# Altium integrated library TI Digital Signal Processor 32-Bit.IntLib: 121 symbols (part 11 of 13)
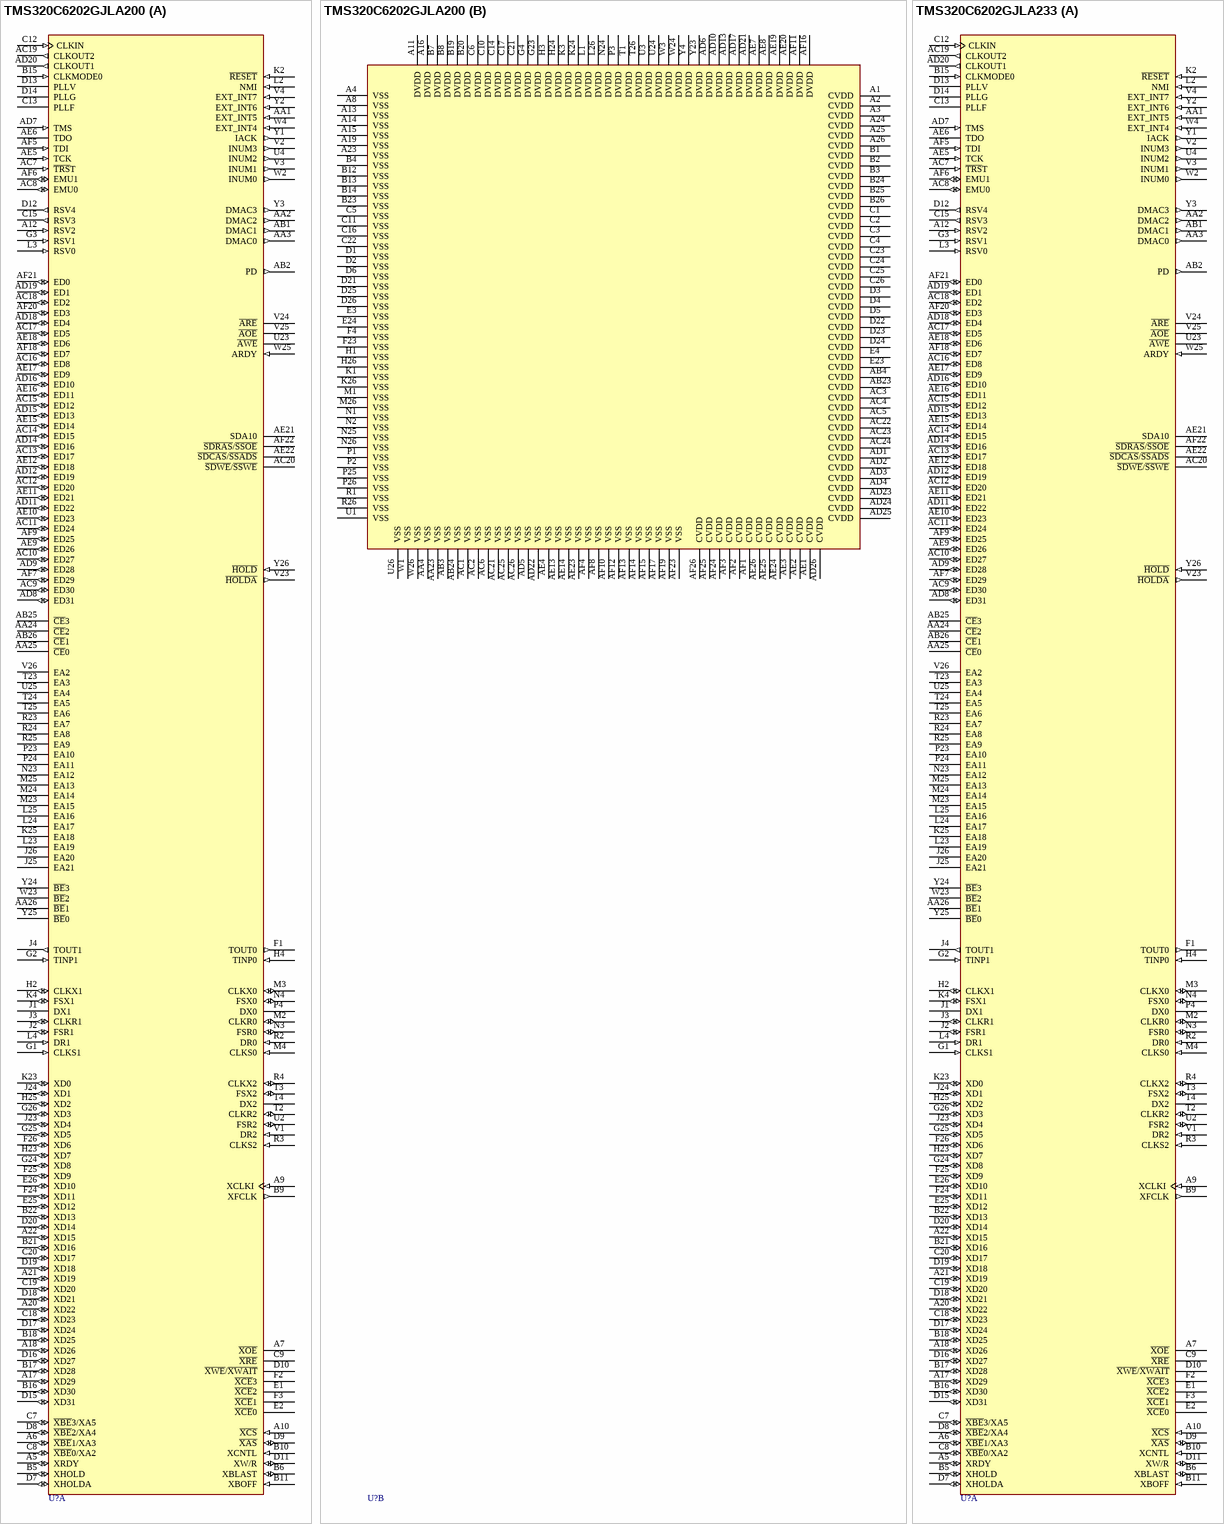
[diagram p140: symbols TMS320C6202GJLA200 to TMS320C6202GJLA233]

## TMS320C6202GJLA200
designator U?
Fixed-Point, 1.8/3.3V, 2000 MIPS, Multichannel/Multifunction DSP; Note: PLLV, PLLG and PLLF are not part of external voltage supply or ground.; Published: 25-Jan-2001; LatestRevisionDate: 13-Apr-2006; LatestRevisionNote: IPC-7351 Footprint Added.; DatasheetVersion: Mar-2000; PackageVersion: Feb-2000; PackageReference: GJL352; Publisher: Altium Limited; PackageDescription: 352-Ball Ball Grid Array 1 mm Pitch; ComponentLink1Description: Manufacturer Link; ComponentLink1URL: http://www.ti.com/; ComponentLink2Description: Datasheet; ComponentLink2URL: http://www-s.ti.com/sc/ds/tms320c6202.pdf
footprint GJL352 (BGA, 352-Leads, Body 27x27mm, Pitch 1mm)
3D model TMS320C6202-GJL352 (352-Ball Ball Grid Array 1 mm Pitch)
part A pins: A5 XRDY (io), A6 ~{XBE}1/XA3 (io), A7 ~{XOE} (hiz), A9 XCLKI (in), A10 ~{XCS} (in), A12 RSV2 (in), A17 XD29 (io), A18 XD26 (io), A20 XD22 (io), A21 XD19 (io), A22 XD15 (io), AA1 EXT_INT5 (in), AA2 DMAC2 (out), AA3 DMAC0 (out), AA24 ~{CE}2 (hiz), AA25 ~{CE}0 (hiz), AA26 ~{BE}1 (hiz), AB1 DMAC1 (out), AB2 PD (out), AB25 ~{CE}3 (hiz), AB26 ~{CE}1 (hiz), AC7 ~{TRS}T (in), AC8 EMU0 (io), AC9 ED30 (io), AC10 ED27 (io), AC11 ED24 (io), AC12 ED20 (io), AC13 ED17 (io), AC14 ED15 (io), AC15 ED12 (io), AC16 ED8 (io), AC17 ED5 (io), AC18 ED2 (io), AC19 CLKOUT2 (out), AC20 ~{SDWE}/~{SSWE} (hiz), AD7 TMS (in), AD8 ED31 (io), AD9 ED28 (io), AD11 ED22 (io), AD12 ED19 (io), AD14 ED16 (io), AD15 ED13 (io), AD16 ED10 (io), AD18 ED4 (io), AD19 ED1 (io), AD20 CLKOUT1 (out), AE5 TCK (in), AE6 TDO (hiz), AE9 ED26 (io), AE10 ED23 (io), AE11 ED21 (io), AE12 ED18 (io), AE15 ED14 (io), AE16 ED11 (io), AE17 ED9 (io), AE18 ED6 (io), AE21 SDA10 (hiz), AE22 ~{SDCAS}/~{SSADS} (hiz), AF5 TDI (in), AF6 EMU1 (io), AF7 ED29 (io), AF9 ED25 (io), AF18 ED7 (io), AF20 ED3 (io), AF21 ED0 (io), AF22 ~{SDRAS}/~{SSOE} (hiz), B5 XHOLD (io), B6 XBLAST (io), B9 XFCLK (out), B10 XCNTL (in), B11 XBOFF (in), B15 CLKMODE0 (in), B16 XD30 (io), B17 XD28 (io), B18 XD25 (io), B21 XD16 (io), B22 XD13 (io), C7 ~{XBE}3/XA5 (io), C8 ~{XBE}0/XA2 (io), C9 ~{XRE} (hiz), C12 CLKIN (in), C13 PLLF, C15 RSV3 (out), C18 XD23 (io), C19 XD20 (io), C20 XD17 (io), D7 XHOLDA (io), D8 ~{XBE}2/XA4 (io), D9 ~{XAS} (io), D10 ~{XWE}/~{XWAIT} (hiz), D11 XW/R (io), D12 RSV4 (out), D13 PLLV (power), D14 PLLG (power), D15 XD31 (io), D16 XD27 (io), D17 XD24 (io), D18 XD21 (io), D19 XD18 (io), D20 XD14 (io), E1 ~{XCE}2 (hiz), E2 ~{XCE}0 (hiz), E25 XD12 (io), E26 XD10 (io), F1 TOUT0 (out), F2 ~{XCE}3 (hiz), F3 ~{XCE}1 (hiz), F24 XD11 (io), F25 XD9 (io), F26 XD6 (io), G1 CLKS1 (in), G2 TINP1 (in), G3 RSV1 (in), G24 XD8 (io), G25 XD5 (io), G26 XD3 (io), H2 CLKX1 (io), H4 TINP0 (in), H23 XD7 (io), H25 XD2 (io), J1 DX1 (hiz), J2 FSR1 (io), J3 CLKR1 (io), J4 TOUT1 (out), J23 XD4 (io), J24 XD1 (io), J25 EA21 (hiz), J26 EA20 (hiz), K2 ~{RESET} (in), K4 FSX1 (io), K23 XD0 (io), K25 EA18 (hiz), L2 NMI (in), L3 RSV0 (in), L4 DR1 (in), L23 EA19 (hiz), L24 EA17 (hiz), L25 EA16 (hiz), M2 CLKR0 (io), M3 CLKX0 (io), M4 CLKS0 (in), M23 EA15 (hiz), M24 EA14 (hiz), M25 EA13 (hiz), N3 FSR0 (io), N4 FSX0 (io), N23 EA12 (hiz), P4 DX0 (hiz), P23 EA10 (hiz), P24 EA11 (hiz), R2 DR0 (in), R3 CLKS2 (in), R4 CLKX2 (io), R23 EA7 (hiz), R24 EA8 (hiz), R25 EA9 (hiz), T2 CLKR2 (io), T3 FSX2 (io), T4 DX2 (hiz), T23 EA3 (hiz), T24 EA5 (hiz), T25 EA6 (hiz), U2 FSR2 (io), U4 INUM2 (out), U23 ~{AWE} (hiz), U25 EA4 (hiz), V1 DR2 (in), V2 INUM3 (out), V3 INUM1 (out), V4 EXT_INT7 (in), V23 ~{HOLDA} (out), V24 ~{ARE} (hiz), V25 ~{AOE} (hiz), V26 EA2 (hiz), W2 INUM0 (out), W4 EXT_INT4 (in), W23 ~{BE}2 (hiz), W25 ARDY (in), Y1 IACK (out), Y2 EXT_INT6 (in), Y3 DMAC3 (out), Y24 ~{BE}3 (hiz), Y25 ~{BE}0 (hiz), Y26 ~{HOLD} (in)
part B pins: A1 CVDD (power), A2 CVDD (power), A3 CVDD (power), A4 VSS (power), A8 VSS (power), A11 DVDD (power), A13 VSS (power), A14 VSS (power), A15 VSS (power), A16 DVDD (power), A19 VSS (power), A23 VSS (power), A24 CVDD (power), A25 CVDD (power), A26 CVDD (power), AA4 VSS (power), AA23 VSS (power), AB3 VSS (power), AB4 CVDD (power), AB23 CVDD (power), AB24 VSS (power), AC1 VSS (power), AC2 VSS (power), AC3 CVDD (power), AC4 CVDD (power), AC5 CVDD (power), AC6 VSS (power), AC21 VSS (power), AC22 CVDD (power), AC23 CVDD (power), AC24 CVDD (power), AC25 VSS (power), AC26 VSS (power), AD1 CVDD (power), AD2 CVDD (power), AD3 CVDD (power), AD4 CVDD (power), AD5 VSS (power), AD6 DVDD (power), AD10 DVDD (power), AD13 DVDD (power), AD17 DVDD (power), AD21 DVDD (power), AD22 VSS (power), AD23 CVDD (power), AD24 CVDD (power), AD25 CVDD (power), AD26 CVDD (power), AE1 CVDD (power), AE2 CVDD (power), AE3 CVDD (power), AE4 VSS (power), AE7 DVDD (power), AE8 DVDD (power), AE13 VSS (power), AE14 VSS (power), AE19 DVDD (power), AE20 DVDD (power), AE23 VSS (power), AE24 CVDD (power), AE25 CVDD (power), AE26 CVDD (power), AF1 CVDD (power), AF2 CVDD (power), AF3 CVDD (power), AF4 VSS (power), AF8 VSS (power), AF10 VSS (power), AF11 DVDD (power), AF12 VSS (power), AF13 VSS (power), AF14 VSS (power), AF15 VSS (power), AF16 DVDD (power), AF17 VSS (power), AF19 VSS (power), AF23 VSS (power), AF24 CVDD (power), AF25 CVDD (power), AF26 CVDD (power), B1 CVDD (power), B2 CVDD (power), B3 CVDD (power), B4 VSS (power), B7 DVDD (power), B8 DVDD (power), B12 VSS (power), B13 VSS (power), B14 VSS (power), B19 DVDD (power), B20 DVDD (power), B23 VSS (power), B24 CVDD (power), B25 CVDD (power), B26 CVDD (power), C1 CVDD (power), C2 CVDD (power), C3 CVDD (power), C4 CVDD (power), C5 VSS (power), C6 DVDD (power), C10 DVDD (power), C11 VSS (power), C14 DVDD (power), C16 VSS (power), C17 DVDD (power), C21 DVDD (power), C22 VSS (power), C23 CVDD (power), C24 CVDD (power), C25 CVDD (power), C26 CVDD (power), D1 VSS (power), D2 VSS (power), D3 CVDD (power), D4 CVDD (power), D5 CVDD (power), D6 VSS (power), D21 VSS (power), D22 CVDD (power), D23 CVDD (power), D24 CVDD (power), D25 VSS (power), D26 VSS (power), E3 VSS (power), E4 CVDD (power), E23 CVDD (power), E24 VSS (power), F4 VSS (power), F23 VSS (power), G4 DVDD (power), G23 DVDD (power), H1 VSS (power), H3 DVDD (power), H24 DVDD (power), H26 VSS (power), K1 VSS (power), K3 DVDD (power), K24 DVDD (power), K26 VSS (power), L1 DVDD (power), L26 DVDD (power), M1 VSS (power), M26 VSS (power), N1 VSS (power), N2 VSS (power), N24 DVDD (power), N25 VSS (power), N26 VSS (power), P1 VSS (power), P2 VSS (power), P3 DVDD (power), P25 VSS (power), P26 VSS (power), R1 VSS (power), R26 VSS (power), T1 DVDD (power), T26 DVDD (power), U1 VSS (power), U3 DVDD (power), U24 DVDD (power), U26 VSS (power), W1 VSS (power), W3 DVDD (power), W24 DVDD (power), W26 VSS (power), Y4 DVDD (power), Y23 DVDD (power)

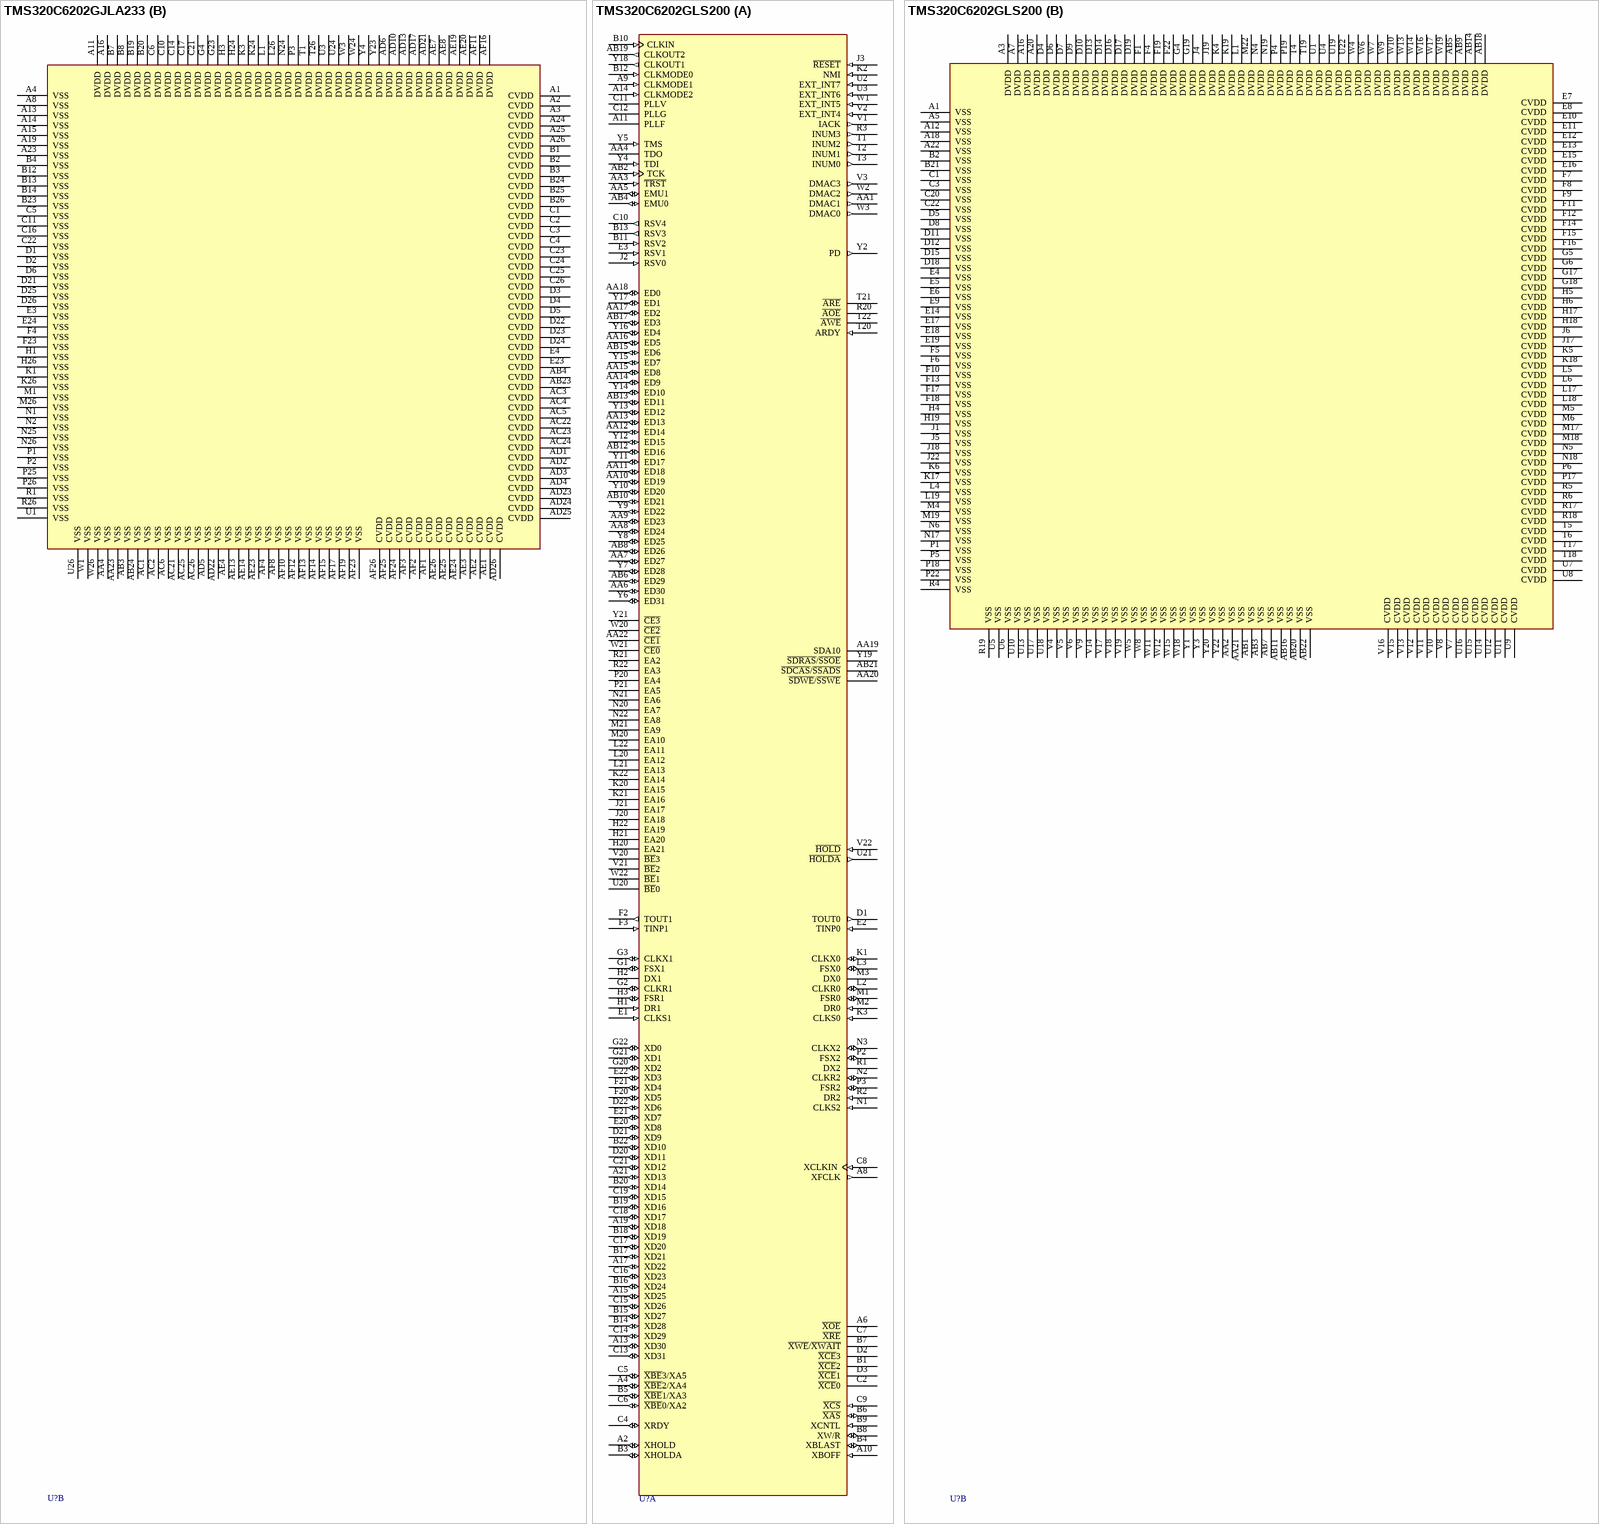
[diagram p116: symbols TMS320C6202GJLA233 to TMS320C6202GLS200]

## TMS320C6202GJLA233
designator U?
Fixed-Point, 1.8/3.3V, 2000 MIPS, Multichannel/Multifunction DSP; Note: PLLV, PLLG and PLLF are not part of external voltage supply or ground.; Published: 25-Jan-2001; LatestRevisionDate: 13-Apr-2006; LatestRevisionNote: IPC-7351 Footprint Added.; DatasheetVersion: Mar-2000; PackageVersion: Feb-2000; PackageReference: GJL352; Publisher: Altium Limited; PackageDescription: 352-Ball Ball Grid Array 1 mm Pitch; ComponentLink1Description: Manufacturer Link; ComponentLink1URL: http://www.ti.com/; ComponentLink2Description: Datasheet; ComponentLink2URL: http://www-s.ti.com/sc/ds/tms320c6202.pdf
footprint GJL352 (BGA, 352-Leads, Body 27x27mm, Pitch 1mm)
3D model TMS320C6202-GJL352 (352-Ball Ball Grid Array 1 mm Pitch)
part A pins: A5 XRDY (io), A6 ~{XBE}1/XA3 (io), A7 ~{XOE} (hiz), A9 XCLKI (in), A10 ~{XCS} (in), A12 RSV2 (in), A17 XD29 (io), A18 XD26 (io), A20 XD22 (io), A21 XD19 (io), A22 XD15 (io), AA1 EXT_INT5 (in), AA2 DMAC2 (out), AA3 DMAC0 (out), AA24 ~{CE}2 (hiz), AA25 ~{CE}0 (hiz), AA26 ~{BE}1 (hiz), AB1 DMAC1 (out), AB2 PD (out), AB25 ~{CE}3 (hiz), AB26 ~{CE}1 (hiz), AC7 ~{TRS}T (in), AC8 EMU0 (io), AC9 ED30 (io), AC10 ED27 (io), AC11 ED24 (io), AC12 ED20 (io), AC13 ED17 (io), AC14 ED15 (io), AC15 ED12 (io), AC16 ED8 (io), AC17 ED5 (io), AC18 ED2 (io), AC19 CLKOUT2 (out), AC20 ~{SDWE}/~{SSWE} (hiz), AD7 TMS (in), AD8 ED31 (io), AD9 ED28 (io), AD11 ED22 (io), AD12 ED19 (io), AD14 ED16 (io), AD15 ED13 (io), AD16 ED10 (io), AD18 ED4 (io), AD19 ED1 (io), AD20 CLKOUT1 (out), AE5 TCK (in), AE6 TDO (hiz), AE9 ED26 (io), AE10 ED23 (io), AE11 ED21 (io), AE12 ED18 (io), AE15 ED14 (io), AE16 ED11 (io), AE17 ED9 (io), AE18 ED6 (io), AE21 SDA10 (hiz), AE22 ~{SDCAS}/~{SSADS} (hiz), AF5 TDI (in), AF6 EMU1 (io), AF7 ED29 (io), AF9 ED25 (io), AF18 ED7 (io), AF20 ED3 (io), AF21 ED0 (io), AF22 ~{SDRAS}/~{SSOE} (hiz), B5 XHOLD (io), B6 XBLAST (io), B9 XFCLK (out), B10 XCNTL (in), B11 XBOFF (in), B15 CLKMODE0 (in), B16 XD30 (io), B17 XD28 (io), B18 XD25 (io), B21 XD16 (io), B22 XD13 (io), C7 ~{XBE}3/XA5 (io), C8 ~{XBE}0/XA2 (io), C9 ~{XRE} (hiz), C12 CLKIN (in), C13 PLLF, C15 RSV3 (out), C18 XD23 (io), C19 XD20 (io), C20 XD17 (io), D7 XHOLDA (io), D8 ~{XBE}2/XA4 (io), D9 ~{XAS} (io), D10 ~{XWE}/~{XWAIT} (hiz), D11 XW/R (io), D12 RSV4 (out), D13 PLLV (power), D14 PLLG (power), D15 XD31 (io), D16 XD27 (io), D17 XD24 (io), D18 XD21 (io), D19 XD18 (io), D20 XD14 (io), E1 ~{XCE}2 (hiz), E2 ~{XCE}0 (hiz), E25 XD12 (io), E26 XD10 (io), F1 TOUT0 (out), F2 ~{XCE}3 (hiz), F3 ~{XCE}1 (hiz), F24 XD11 (io), F25 XD9 (io), F26 XD6 (io), G1 CLKS1 (in), G2 TINP1 (in), G3 RSV1 (in), G24 XD8 (io), G25 XD5 (io), G26 XD3 (io), H2 CLKX1 (io), H4 TINP0 (in), H23 XD7 (io), H25 XD2 (io), J1 DX1 (hiz), J2 FSR1 (io), J3 CLKR1 (io), J4 TOUT1 (out), J23 XD4 (io), J24 XD1 (io), J25 EA21 (hiz), J26 EA20 (hiz), K2 ~{RESET} (in), K4 FSX1 (io), K23 XD0 (io), K25 EA18 (hiz), L2 NMI (in), L3 RSV0 (in), L4 DR1 (in), L23 EA19 (hiz), L24 EA17 (hiz), L25 EA16 (hiz), M2 CLKR0 (io), M3 CLKX0 (io), M4 CLKS0 (in), M23 EA15 (hiz), M24 EA14 (hiz), M25 EA13 (hiz), N3 FSR0 (io), N4 FSX0 (io), N23 EA12 (hiz), P4 DX0 (hiz), P23 EA10 (hiz), P24 EA11 (hiz), R2 DR0 (in), R3 CLKS2 (in), R4 CLKX2 (io), R23 EA7 (hiz), R24 EA8 (hiz), R25 EA9 (hiz), T2 CLKR2 (io), T3 FSX2 (io), T4 DX2 (hiz), T23 EA3 (hiz), T24 EA5 (hiz), T25 EA6 (hiz), U2 FSR2 (io), U4 INUM2 (out), U23 ~{AWE} (hiz), U25 EA4 (hiz), V1 DR2 (in), V2 INUM3 (out), V3 INUM1 (out), V4 EXT_INT7 (in), V23 ~{HOLDA} (out), V24 ~{ARE} (hiz), V25 ~{AOE} (hiz), V26 EA2 (hiz), W2 INUM0 (out), W4 EXT_INT4 (in), W23 ~{BE}2 (hiz), W25 ARDY (in), Y1 IACK (out), Y2 EXT_INT6 (in), Y3 DMAC3 (out), Y24 ~{BE}3 (hiz), Y25 ~{BE}0 (hiz), Y26 ~{HOLD} (in)
part B pins: A1 CVDD (power), A2 CVDD (power), A3 CVDD (power), A4 VSS (power), A8 VSS (power), A11 DVDD (power), A13 VSS (power), A14 VSS (power), A15 VSS (power), A16 DVDD (power), A19 VSS (power), A23 VSS (power), A24 CVDD (power), A25 CVDD (power), A26 CVDD (power), AA4 VSS (power), AA23 VSS (power), AB3 VSS (power), AB4 CVDD (power), AB23 CVDD (power), AB24 VSS (power), AC1 VSS (power), AC2 VSS (power), AC3 CVDD (power), AC4 CVDD (power), AC5 CVDD (power), AC6 VSS (power), AC21 VSS (power), AC22 CVDD (power), AC23 CVDD (power), AC24 CVDD (power), AC25 VSS (power), AC26 VSS (power), AD1 CVDD (power), AD2 CVDD (power), AD3 CVDD (power), AD4 CVDD (power), AD5 VSS (power), AD6 DVDD (power), AD10 DVDD (power), AD13 DVDD (power), AD17 DVDD (power), AD21 DVDD (power), AD22 VSS (power), AD23 CVDD (power), AD24 CVDD (power), AD25 CVDD (power), AD26 CVDD (power), AE1 CVDD (power), AE2 CVDD (power), AE3 CVDD (power), AE4 VSS (power), AE7 DVDD (power), AE8 DVDD (power), AE13 VSS (power), AE14 VSS (power), AE19 DVDD (power), AE20 DVDD (power), AE23 VSS (power), AE24 CVDD (power), AE25 CVDD (power), AE26 CVDD (power), AF1 CVDD (power), AF2 CVDD (power), AF3 CVDD (power), AF4 VSS (power), AF8 VSS (power), AF10 VSS (power), AF11 DVDD (power), AF12 VSS (power), AF13 VSS (power), AF14 VSS (power), AF15 VSS (power), AF16 DVDD (power), AF17 VSS (power), AF19 VSS (power), AF23 VSS (power), AF24 CVDD (power), AF25 CVDD (power), AF26 CVDD (power), B1 CVDD (power), B2 CVDD (power), B3 CVDD (power), B4 VSS (power), B7 DVDD (power), B8 DVDD (power), B12 VSS (power), B13 VSS (power), B14 VSS (power), B19 DVDD (power), B20 DVDD (power), B23 VSS (power), B24 CVDD (power), B25 CVDD (power), B26 CVDD (power), C1 CVDD (power), C2 CVDD (power), C3 CVDD (power), C4 CVDD (power), C5 VSS (power), C6 DVDD (power), C10 DVDD (power), C11 VSS (power), C14 DVDD (power), C16 VSS (power), C17 DVDD (power), C21 DVDD (power), C22 VSS (power), C23 CVDD (power), C24 CVDD (power), C25 CVDD (power), C26 CVDD (power), D1 VSS (power), D2 VSS (power), D3 CVDD (power), D4 CVDD (power), D5 CVDD (power), D6 VSS (power), D21 VSS (power), D22 CVDD (power), D23 CVDD (power), D24 CVDD (power), D25 VSS (power), D26 VSS (power), E3 VSS (power), E4 CVDD (power), E23 CVDD (power), E24 VSS (power), F4 VSS (power), F23 VSS (power), G4 DVDD (power), G23 DVDD (power), H1 VSS (power), H3 DVDD (power), H24 DVDD (power), H26 VSS (power), K1 VSS (power), K3 DVDD (power), K24 DVDD (power), K26 VSS (power), L1 DVDD (power), L26 DVDD (power), M1 VSS (power), M26 VSS (power), N1 VSS (power), N2 VSS (power), N24 DVDD (power), N25 VSS (power), N26 VSS (power), P1 VSS (power), P2 VSS (power), P3 DVDD (power), P25 VSS (power), P26 VSS (power), R1 VSS (power), R26 VSS (power), T1 DVDD (power), T26 DVDD (power), U1 VSS (power), U3 DVDD (power), U24 DVDD (power), U26 VSS (power), W1 VSS (power), W3 DVDD (power), W24 DVDD (power), W26 VSS (power), Y4 DVDD (power), Y23 DVDD (power)

## TMS320C6202GLS200
designator U?
Fixed-Point, 1.8/3.3V, 2000 MIPS, Multichannel/Multifunction DSP; Note: PLLV, PLLG and PLLF are not part of external voltage supply or ground.; Published: 25-Jan-2001; LatestRevisionDate: 13-Apr-2006; LatestRevisionNote: IPC-7351 Footprint Added.; DatasheetVersion: Mar-2000; PackageVersion: Apr-2000; PackageReference: GLS384; Publisher: Altium Limited; PackageDescription: 384-Ball Ball Grid Array 0.8 mm Pitch; ComponentLink1Description: Manufacturer Link; ComponentLink1URL: http://www.ti.com/; ComponentLink2Description: Datasheet; ComponentLink2URL: http://www-s.ti.com/sc/ds/tms320c6202.pdf
footprint GLS384 (BGA, 384-Leads, Body 18x18mm, Pitch 0.8mm)
3D model TMS320C6202-GLS384 (384-Ball Ball Grid Array 0.8 mm Pitch)
part A pins: A2 XHOLD (io), A4 ~{XBE}2/XA4 (io), A6 ~{XOE} (hiz), A8 XFCLK (out), A9 CLKMODE1 (in), A10 XBOFF (in), A11 PLLF, A13 XD30 (io), A14 CLKMODE2 (in), A15 XD25 (io), A17 XD22 (io), A19 XD18 (io), A21 XD13 (io), AA1 DMAC1 (out), AA3 ~{TRST} (in), AA4 TDO (hiz), AA5 EMU1 (io), AA6 ED30 (io), AA7 ED27 (io), AA8 ED24 (io), AA9 ED23 (io), AA10 ED19 (io), AA11 ED18 (io), AA12 ED14 (io), AA13 ED13 (io), AA14 ED9 (io), AA15 ED8 (io), AA16 ED5 (io), AA17 ED2 (io), AA18 ED0 (io), AA19 SDA10 (hiz), AA20 ~{SDWE}/~{SSWE} (hiz), AA22 ~{CE1} (hiz), AB2 TCK (in), AB4 EMU0 (io), AB6 ED29 (io), AB8 ED26 (io), AB10 ED21 (io), AB12 ED16 (io), AB13 ED11 (io), AB15 ED6 (io), AB17 ED3 (io), AB19 CLKOUT2 (out), AB21 ~{SDCAS}/~{SSADS} (hiz), B1 ~{XCE}2 (hiz), B3 XHOLDA (io), B4 XBLAST (io), B5 ~{XBE}1/XA3 (io), B6 ~{XAS} (io), B7 ~{XWE}/~{XWAIT} (hiz), B8 XW/R (io), B9 XCNTL (in), B10 CLKIN (in), B11 RSV2 (in), B12 CLKMODE0 (in), B13 RSV3 (out), B14 XD28 (io), B15 XD27 (io), B16 XD24 (io), B17 XD21 (io), B18 XD19 (io), B19 XD16 (io), B20 XD14 (io), B22 XD10 (io), C2 ~{XCE}0 (hiz), C4 XRDY (io), C5 ~{XBE}3/XA5 (io), C6 ~{XBE}0/XA2 (io), C7 ~{XRE} (hiz), C8 XCLKIN (in), C9 ~{XCS} (in), C10 RSV4 (out), C11 PLLV (power), C12 PLLG (power), C13 XD31 (io), C14 XD29 (io), C15 XD26 (io), C16 XD23 (io), C17 XD20 (io), C18 XD17 (io), C19 XD15 (io), C21 XD12 (io), D1 TOUT0 (out), D2 ~{XCE}3 (hiz), D3 ~{XCE}1 (hiz), D20 XD11 (io), D21 XD9 (io), D22 XD6 (io), E1 CLKS1 (in), E2 TINP0 (in), E3 RSV1 (in), E20 XD8 (io), E21 XD7 (io), E22 XD3 (io), F2 TOUT1 (out), F3 TINP1 (in), F20 XD5 (io), F21 XD4 (io), G1 FSX1 (io), G2 CLKR1 (io), G3 CLKX1 (io), G20 XD2 (io), G21 XD1 (io), G22 XD0 (io), H1 DR1 (in), H2 DX1 (hiz), H3 FSR1 (io), H20 EA21 (hiz), H21 EA20 (hiz), H22 EA19 (hiz), J2 RSV0 (in), J3 ~{RESET} (in), J20 EA18 (hiz), J21 EA17 (hiz), K1 CLKX0 (io), K2 NMI (in), K3 CLKS0 (in), K20 EA15 (hiz), K21 EA16 (hiz), K22 EA14 (hiz), L2 CLKR0 (io), L3 FSX0 (io), L20 EA12 (hiz), L21 EA13 (hiz), L22 EA11 (hiz), M1 FSR0 (io), M2 DR0 (in), M3 DX0 (hiz), M20 EA10 (hiz), M21 EA9 (hiz), N1 CLKS2 (in), N2 CLKR2 (io), N3 CLKX2 (io), N20 EA7 (hiz), N21 EA6 (hiz), N22 EA8 (hiz), P2 FSX2 (io), P3 FSR2 (io), P20 EA4 (hiz), P21 EA5 (hiz), R1 DX2 (hiz), R2 DR2 (in), R3 INUM3 (out), R20 ~{AOE} (hiz), R21 EA2 (hiz), R22 EA3 (hiz), T1 INUM2 (out), T2 INUM1 (out), T3 INUM0 (out), T20 ARDY (in), T21 ~{ARE} (hiz), T22 ~{AWE} (hiz), U2 EXT_INT7 (in), U3 EXT_INT6 (in), U20 ~{BE}0 (hiz), U21 ~{HOLDA} (out), V1 IACK (out), V2 EXT_INT4 (in), V3 DMAC3 (out), V20 ~{BE}3 (hiz), V21 ~{BE}2 (hiz), V22 ~{HOLD} (in), W1 EXT_INT5 (in), W2 DMAC2 (out), W3 DMAC0 (out), W20 ~{CE2} (hiz), W21 ~{CE0} (hiz), W22 ~{BE}1 (hiz), Y2 PD (out), Y4 TDI (in), Y5 TMS (in), Y6 ED31 (io), Y7 ED28 (io), Y8 ED25 (io), Y9 ED22 (io), Y10 ED20 (io), Y11 ED17 (io), Y12 ED15 (io), Y13 ED12 (io), Y14 ED10 (io), Y15 ED7 (io), Y16 ED4 (io), Y17 ED1 (io), Y18 CLKOUT1 (out), Y19 ~{SDRAS}/~{SSOE} (hiz), Y21 ~{CE3} (hiz)
part B pins: A1 VSS (power), A3 DVDD (power), A5 VSS (power), A7 DVDD (power), A12 VSS (power), A16 DVDD (power), A18 VSS (power), A20 DVDD (power), A22 VSS (power), AA2 VSS (power), AA21 VSS (power), AB1 VSS (power), AB3 VSS (power), AB5 DVDD (power), AB7 VSS (power), AB9 DVDD (power), AB11 VSS (power), AB14 DVDD (power), AB16 VSS (power), AB18 DVDD (power), AB20 VSS (power), AB22 VSS (power), B2 VSS (power), B21 VSS (power), C1 VSS (power), C3 VSS (power), C20 VSS (power), C22 VSS (power), D4 DVDD (power), D5 VSS (power), D6 DVDD (power), D7 DVDD (power), D8 VSS (power), D9 DVDD (power), D10 DVDD (power), D11 VSS (power), D12 VSS (power), D13 DVDD (power), D14 DVDD (power), D15 VSS (power), D16 DVDD (power), D17 DVDD (power), D18 VSS (power), D19 DVDD (power), E4 VSS (power), E5 VSS (power), E6 VSS (power), E7 CVDD (power), E8 CVDD (power), E9 VSS (power), E10 CVDD (power), E11 CVDD (power), E12 CVDD (power), E13 CVDD (power), E14 VSS (power), E15 CVDD (power), E16 CVDD (power), E17 VSS (power), E18 VSS (power), E19 VSS (power), F1 DVDD (power), F4 DVDD (power), F5 VSS (power), F6 VSS (power), F7 CVDD (power), F8 CVDD (power), F9 CVDD (power), F10 VSS (power), F11 CVDD (power), F12 CVDD (power), F13 VSS (power), F14 CVDD (power), F15 CVDD (power), F16 CVDD (power), F17 VSS (power), F18 VSS (power), F19 DVDD (power), F22 DVDD (power), G4 DVDD (power), G5 CVDD (power), G6 CVDD (power), G17 CVDD (power), G18 CVDD (power), G19 DVDD (power), H4 VSS (power), H5 CVDD (power), H6 CVDD (power), H17 CVDD (power), H18 CVDD (power), H19 VSS (power), J1 VSS (power), J4 DVDD (power), J5 VSS (power), J6 CVDD (power), J17 CVDD (power), J18 VSS (power), J19 DVDD (power), J22 VSS (power), K4 DVDD (power), K5 CVDD (power), K6 VSS (power), K17 VSS (power), K18 CVDD (power), K19 DVDD (power), L1 DVDD (power), L4 VSS (power), L5 CVDD (power), L6 CVDD (power), L17 CVDD (power), L18 CVDD (power), L19 VSS (power), M4 VSS (power), M5 CVDD (power), M6 CVDD (power), M17 CVDD (power), M18 CVDD (power), M19 VSS (power), M22 DVDD (power), N4 DVDD (power), N5 CVDD (power), N6 VSS (power), N17 VSS (power), N18 CVDD (power), N19 DVDD (power), P1 VSS (power), P4 DVDD (power), P5 VSS (power), P6 CVDD (power), P17 CVDD (power), P18 VSS (power), P19 DVDD (power), P22 VSS (power), R4 VSS (power), R5 CVDD (power), R6 CVDD (power), R17 CVDD (power), R18 CVDD (power), R19 VSS (power), T4 DVDD (power), T5 CVDD (power), T6 CVDD (power), T17 CVDD (power), T18 CVDD (power), T19 DVDD (power), U1 DVDD (power), U4 DVDD (power), U5 VSS (power), U6 VSS (power), U7 CVDD (power), U8 CVDD (power), U9 CVDD (power), U10 VSS (power), U11 CVDD (power), U12 CVDD (power), U13 VSS (power), U14 CVDD (power), U15 CVDD (power), U16 CVDD (power), U17 VSS (power), U18 VSS (power), U19 DVDD (power), U22 DVDD (power), V4 VSS (power), V5 VSS (power), V6 VSS (power), V7 CVDD (power), V8 CVDD (power), V9 VSS (power), V10 CVDD (power), V11 CVDD (power), V12 CVDD (power), V13 CVDD (power), V14 VSS (power), V15 CVDD (power), V16 CVDD (power), V17 VSS (power), V18 VSS (power), V19 VSS (power), W4 DVDD (power), W5 VSS (power), W6 DVDD (power), W7 DVDD (power), W8 VSS (power), W9 DVDD (power), W10 DVDD (power), W11 VSS (power), W12 VSS (power), W13 DVDD (power), W14 DVDD (power), W15 VSS (power), W16 DVDD (power), W17 DVDD (power), W18 VSS (power), W19 DVDD (power), Y1 VSS (power), Y3 VSS (power), Y20 VSS (power), Y22 VSS (power)

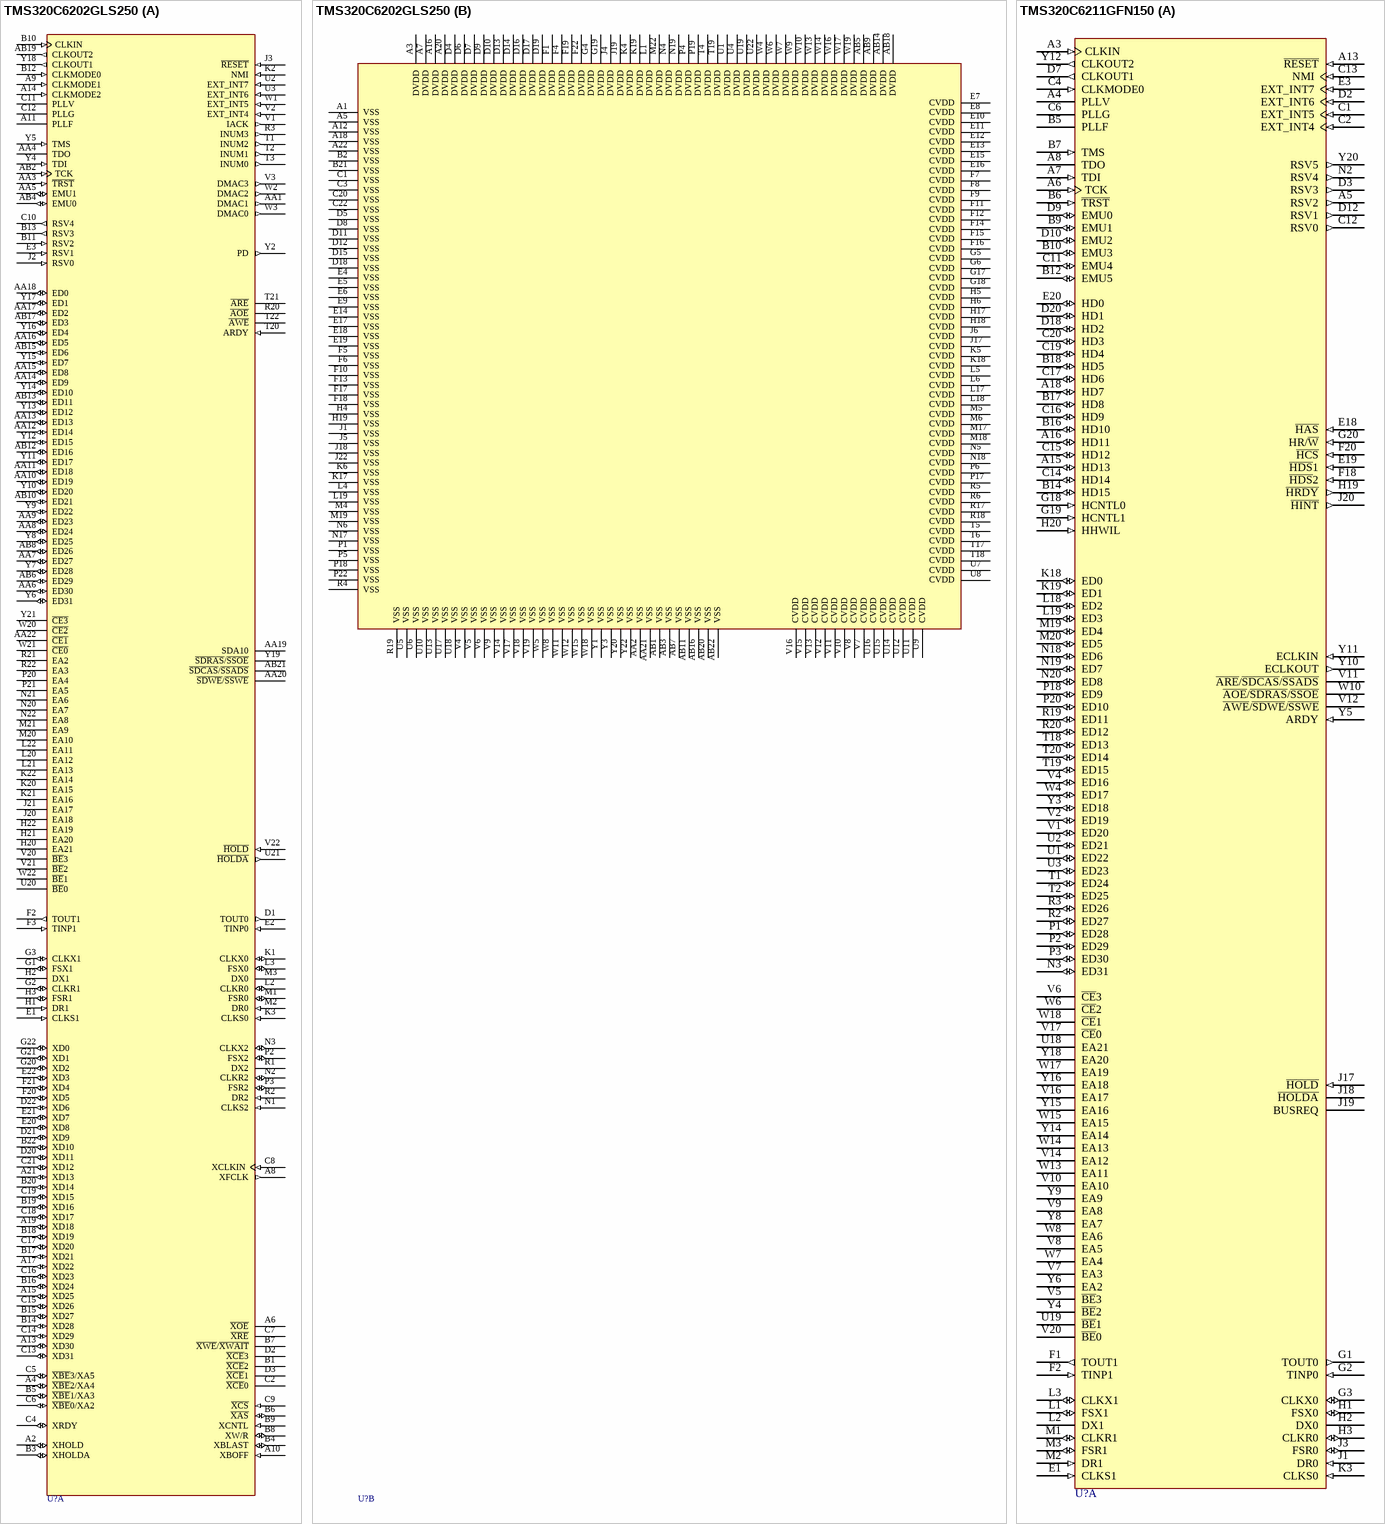
[diagram p117: symbols TMS320C6202GLS250 to TMS320C6211GFN150]

## TMS320C6202GLS250
designator U?
Fixed-Point, 1.8/3.3V, 2000 MIPS, Multichannel/Multifunction DSP; Note: PLLV, PLLG and PLLF are not part of external voltage supply or ground.; Published: 25-Jan-2001; LatestRevisionDate: 13-Apr-2006; LatestRevisionNote: IPC-7351 Footprint Added.; DatasheetVersion: Mar-2000; PackageVersion: Apr-2000; PackageReference: GLS384; Publisher: Altium Limited; PackageDescription: 384-Ball Ball Grid Array 0.8 mm Pitch; ComponentLink1Description: Manufacturer Link; ComponentLink1URL: http://www.ti.com/; ComponentLink2Description: Datasheet; ComponentLink2URL: http://www-s.ti.com/sc/ds/tms320c6202.pdf
footprint GLS384 (BGA, 384-Leads, Body 18x18mm, Pitch 0.8mm)
3D model TMS320C6202-GLS384 (384-Ball Ball Grid Array 0.8 mm Pitch)
part A pins: A2 XHOLD (io), A4 ~{XBE}2/XA4 (io), A6 ~{XOE} (hiz), A8 XFCLK (out), A9 CLKMODE1 (in), A10 XBOFF (in), A11 PLLF, A13 XD30 (io), A14 CLKMODE2 (in), A15 XD25 (io), A17 XD22 (io), A19 XD18 (io), A21 XD13 (io), AA1 DMAC1 (out), AA3 ~{TRST} (in), AA4 TDO (hiz), AA5 EMU1 (io), AA6 ED30 (io), AA7 ED27 (io), AA8 ED24 (io), AA9 ED23 (io), AA10 ED19 (io), AA11 ED18 (io), AA12 ED14 (io), AA13 ED13 (io), AA14 ED9 (io), AA15 ED8 (io), AA16 ED5 (io), AA17 ED2 (io), AA18 ED0 (io), AA19 SDA10 (hiz), AA20 ~{SDWE}/~{SSWE} (hiz), AA22 ~{CE1} (hiz), AB2 TCK (in), AB4 EMU0 (io), AB6 ED29 (io), AB8 ED26 (io), AB10 ED21 (io), AB12 ED16 (io), AB13 ED11 (io), AB15 ED6 (io), AB17 ED3 (io), AB19 CLKOUT2 (out), AB21 ~{SDCAS}/~{SSADS} (hiz), B1 ~{XCE}2 (hiz), B3 XHOLDA (io), B4 XBLAST (io), B5 ~{XBE}1/XA3 (io), B6 ~{XAS} (io), B7 ~{XWE}/~{XWAIT} (hiz), B8 XW/R (io), B9 XCNTL (in), B10 CLKIN (in), B11 RSV2 (in), B12 CLKMODE0 (in), B13 RSV3 (out), B14 XD28 (io), B15 XD27 (io), B16 XD24 (io), B17 XD21 (io), B18 XD19 (io), B19 XD16 (io), B20 XD14 (io), B22 XD10 (io), C2 ~{XCE}0 (hiz), C4 XRDY (io), C5 ~{XBE}3/XA5 (io), C6 ~{XBE}0/XA2 (io), C7 ~{XRE} (hiz), C8 XCLKIN (in), C9 ~{XCS} (in), C10 RSV4 (out), C11 PLLV (power), C12 PLLG (power), C13 XD31 (io), C14 XD29 (io), C15 XD26 (io), C16 XD23 (io), C17 XD20 (io), C18 XD17 (io), C19 XD15 (io), C21 XD12 (io), D1 TOUT0 (out), D2 ~{XCE}3 (hiz), D3 ~{XCE}1 (hiz), D20 XD11 (io), D21 XD9 (io), D22 XD6 (io), E1 CLKS1 (in), E2 TINP0 (in), E3 RSV1 (in), E20 XD8 (io), E21 XD7 (io), E22 XD3 (io), F2 TOUT1 (out), F3 TINP1 (in), F20 XD5 (io), F21 XD4 (io), G1 FSX1 (io), G2 CLKR1 (io), G3 CLKX1 (io), G20 XD2 (io), G21 XD1 (io), G22 XD0 (io), H1 DR1 (in), H2 DX1 (hiz), H3 FSR1 (io), H20 EA21 (hiz), H21 EA20 (hiz), H22 EA19 (hiz), J2 RSV0 (in), J3 ~{RESET} (in), J20 EA18 (hiz), J21 EA17 (hiz), K1 CLKX0 (io), K2 NMI (in), K3 CLKS0 (in), K20 EA15 (hiz), K21 EA16 (hiz), K22 EA14 (hiz), L2 CLKR0 (io), L3 FSX0 (io), L20 EA12 (hiz), L21 EA13 (hiz), L22 EA11 (hiz), M1 FSR0 (io), M2 DR0 (in), M3 DX0 (hiz), M20 EA10 (hiz), M21 EA9 (hiz), N1 CLKS2 (in), N2 CLKR2 (io), N3 CLKX2 (io), N20 EA7 (hiz), N21 EA6 (hiz), N22 EA8 (hiz), P2 FSX2 (io), P3 FSR2 (io), P20 EA4 (hiz), P21 EA5 (hiz), R1 DX2 (hiz), R2 DR2 (in), R3 INUM3 (out), R20 ~{AOE} (hiz), R21 EA2 (hiz), R22 EA3 (hiz), T1 INUM2 (out), T2 INUM1 (out), T3 INUM0 (out), T20 ARDY (in), T21 ~{ARE} (hiz), T22 ~{AWE} (hiz), U2 EXT_INT7 (in), U3 EXT_INT6 (in), U20 ~{BE}0 (hiz), U21 ~{HOLDA} (out), V1 IACK (out), V2 EXT_INT4 (in), V3 DMAC3 (out), V20 ~{BE}3 (hiz), V21 ~{BE}2 (hiz), V22 ~{HOLD} (in), W1 EXT_INT5 (in), W2 DMAC2 (out), W3 DMAC0 (out), W20 ~{CE2} (hiz), W21 ~{CE0} (hiz), W22 ~{BE}1 (hiz), Y2 PD (out), Y4 TDI (in), Y5 TMS (in), Y6 ED31 (io), Y7 ED28 (io), Y8 ED25 (io), Y9 ED22 (io), Y10 ED20 (io), Y11 ED17 (io), Y12 ED15 (io), Y13 ED12 (io), Y14 ED10 (io), Y15 ED7 (io), Y16 ED4 (io), Y17 ED1 (io), Y18 CLKOUT1 (out), Y19 ~{SDRAS}/~{SSOE} (hiz), Y21 ~{CE3} (hiz)
part B pins: A1 VSS (power), A3 DVDD (power), A5 VSS (power), A7 DVDD (power), A12 VSS (power), A16 DVDD (power), A18 VSS (power), A20 DVDD (power), A22 VSS (power), AA2 VSS (power), AA21 VSS (power), AB1 VSS (power), AB3 VSS (power), AB5 DVDD (power), AB7 VSS (power), AB9 DVDD (power), AB11 VSS (power), AB14 DVDD (power), AB16 VSS (power), AB18 DVDD (power), AB20 VSS (power), AB22 VSS (power), B2 VSS (power), B21 VSS (power), C1 VSS (power), C3 VSS (power), C20 VSS (power), C22 VSS (power), D4 DVDD (power), D5 VSS (power), D6 DVDD (power), D7 DVDD (power), D8 VSS (power), D9 DVDD (power), D10 DVDD (power), D11 VSS (power), D12 VSS (power), D13 DVDD (power), D14 DVDD (power), D15 VSS (power), D16 DVDD (power), D17 DVDD (power), D18 VSS (power), D19 DVDD (power), E4 VSS (power), E5 VSS (power), E6 VSS (power), E7 CVDD (power), E8 CVDD (power), E9 VSS (power), E10 CVDD (power), E11 CVDD (power), E12 CVDD (power), E13 CVDD (power), E14 VSS (power), E15 CVDD (power), E16 CVDD (power), E17 VSS (power), E18 VSS (power), E19 VSS (power), F1 DVDD (power), F4 DVDD (power), F5 VSS (power), F6 VSS (power), F7 CVDD (power), F8 CVDD (power), F9 CVDD (power), F10 VSS (power), F11 CVDD (power), F12 CVDD (power), F13 VSS (power), F14 CVDD (power), F15 CVDD (power), F16 CVDD (power), F17 VSS (power), F18 VSS (power), F19 DVDD (power), F22 DVDD (power), G4 DVDD (power), G5 CVDD (power), G6 CVDD (power), G17 CVDD (power), G18 CVDD (power), G19 DVDD (power), H4 VSS (power), H5 CVDD (power), H6 CVDD (power), H17 CVDD (power), H18 CVDD (power), H19 VSS (power), J1 VSS (power), J4 DVDD (power), J5 VSS (power), J6 CVDD (power), J17 CVDD (power), J18 VSS (power), J19 DVDD (power), J22 VSS (power), K4 DVDD (power), K5 CVDD (power), K6 VSS (power), K17 VSS (power), K18 CVDD (power), K19 DVDD (power), L1 DVDD (power), L4 VSS (power), L5 CVDD (power), L6 CVDD (power), L17 CVDD (power), L18 CVDD (power), L19 VSS (power), M4 VSS (power), M5 CVDD (power), M6 CVDD (power), M17 CVDD (power), M18 CVDD (power), M19 VSS (power), M22 DVDD (power), N4 DVDD (power), N5 CVDD (power), N6 VSS (power), N17 VSS (power), N18 CVDD (power), N19 DVDD (power), P1 VSS (power), P4 DVDD (power), P5 VSS (power), P6 CVDD (power), P17 CVDD (power), P18 VSS (power), P19 DVDD (power), P22 VSS (power), R4 VSS (power), R5 CVDD (power), R6 CVDD (power), R17 CVDD (power), R18 CVDD (power), R19 VSS (power), T4 DVDD (power), T5 CVDD (power), T6 CVDD (power), T17 CVDD (power), T18 CVDD (power), T19 DVDD (power), U1 DVDD (power), U4 DVDD (power), U5 VSS (power), U6 VSS (power), U7 CVDD (power), U8 CVDD (power), U9 CVDD (power), U10 VSS (power), U11 CVDD (power), U12 CVDD (power), U13 VSS (power), U14 CVDD (power), U15 CVDD (power), U16 CVDD (power), U17 VSS (power), U18 VSS (power), U19 DVDD (power), U22 DVDD (power), V4 VSS (power), V5 VSS (power), V6 VSS (power), V7 CVDD (power), V8 CVDD (power), V9 VSS (power), V10 CVDD (power), V11 CVDD (power), V12 CVDD (power), V13 CVDD (power), V14 VSS (power), V15 CVDD (power), V16 CVDD (power), V17 VSS (power), V18 VSS (power), V19 VSS (power), W4 DVDD (power), W5 VSS (power), W6 DVDD (power), W7 DVDD (power), W8 VSS (power), W9 DVDD (power), W10 DVDD (power), W11 VSS (power), W12 VSS (power), W13 DVDD (power), W14 DVDD (power), W15 VSS (power), W16 DVDD (power), W17 DVDD (power), W18 VSS (power), W19 DVDD (power), Y1 VSS (power), Y3 VSS (power), Y20 VSS (power), Y22 VSS (power)

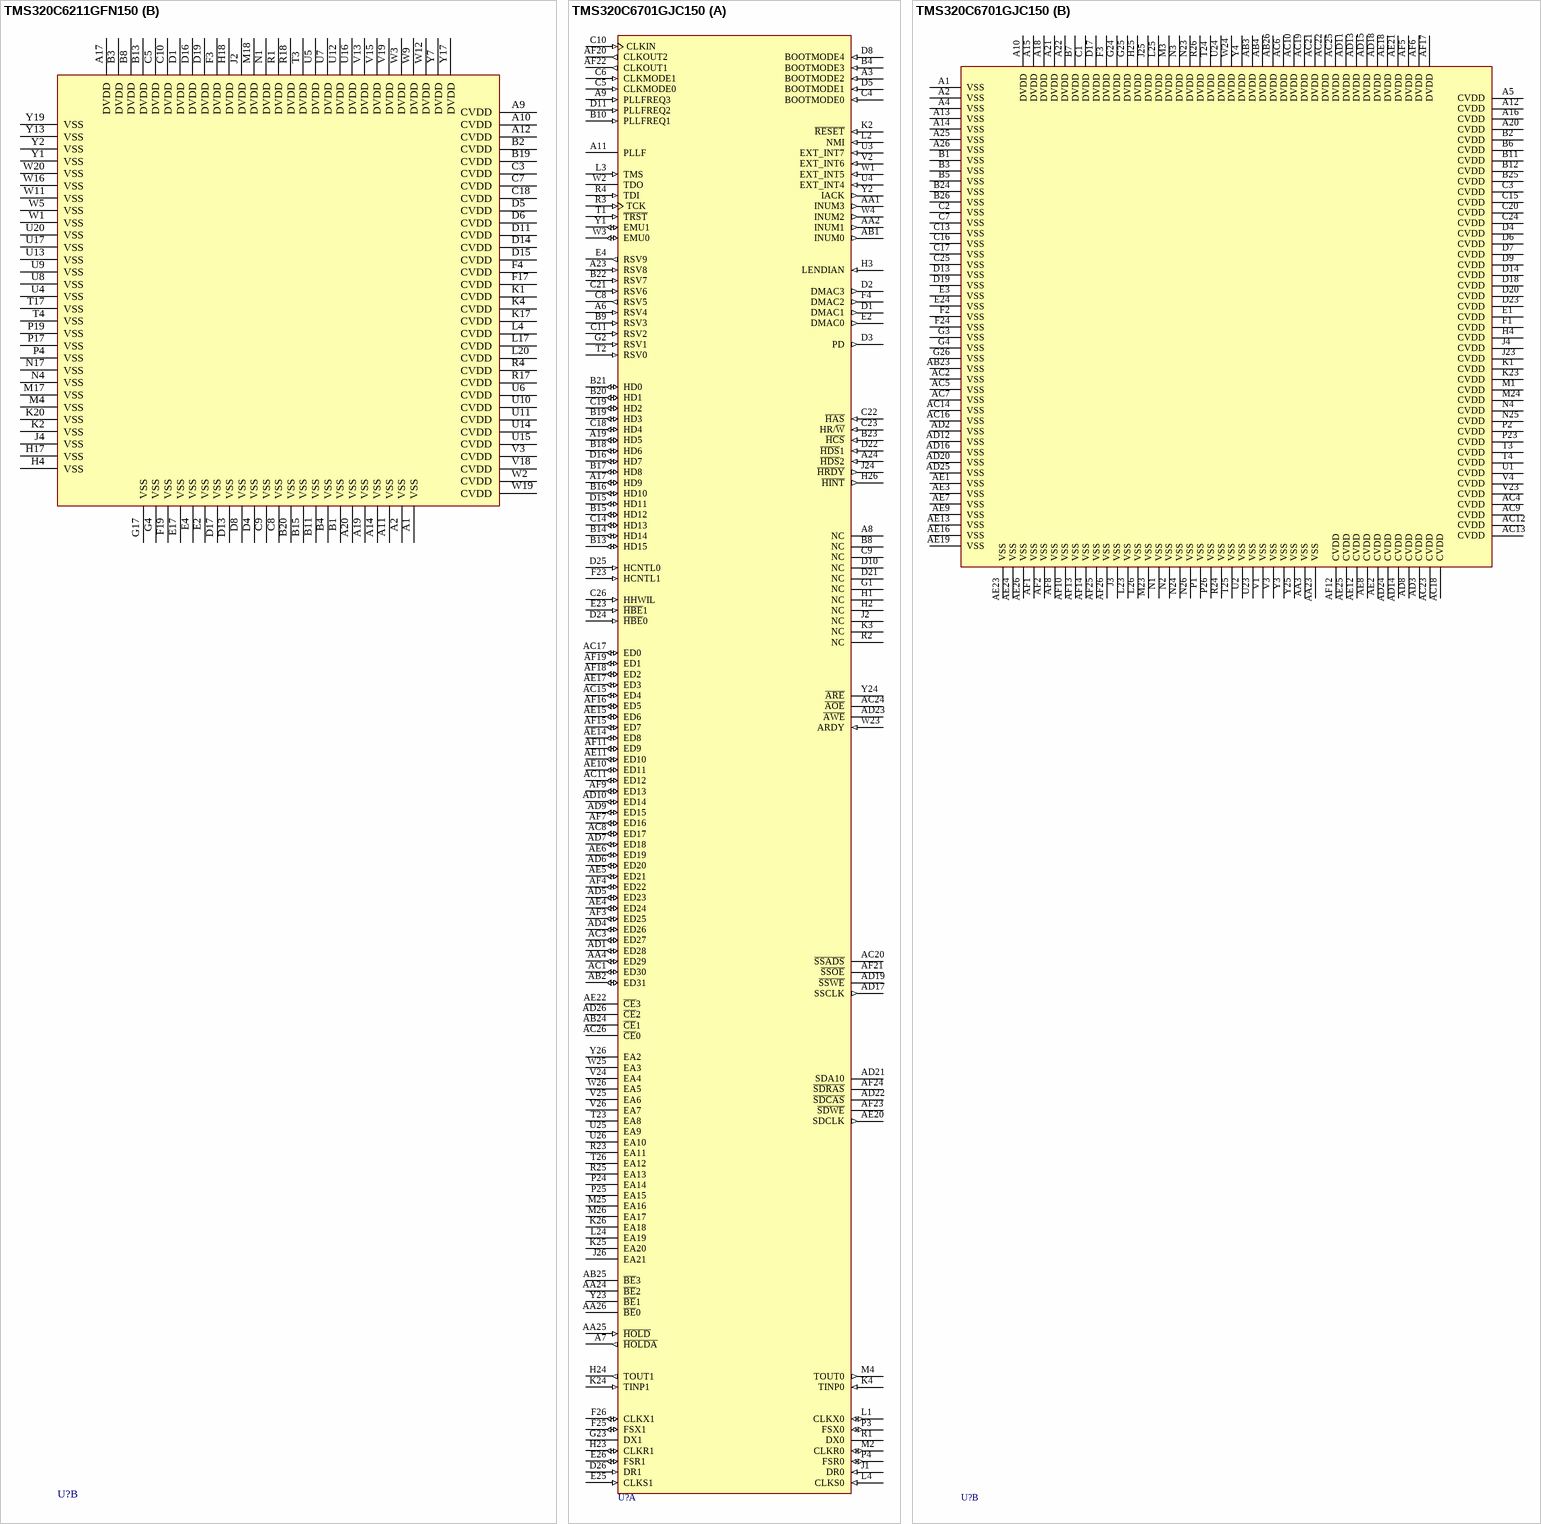
[diagram p118: symbols TMS320C6211GFN150 to TMS320C6701GJC150]

## TMS320C6211GFN150
designator U?
Fixed-Point, 1.8/3.3V, 1336 MIPS, Multichannel/Multifunction DSP; Note: PLLV and PLLG are not part of external voltage supply or ground.; Published: 25-Jan-2001; LatestRevisionDate: 13-Apr-2006; LatestRevisionNote: IPC-7351 Footprint Added.; DatasheetVersion: Jun-2000; PackageVersion: Dec-1998; PackageReference: GFN256; Publisher: Altium Limited; PackageDescription: 256-Ball Ball Grid Array 1.27 mm Pitch; ComponentLink1Description: Manufacturer Link; ComponentLink1URL: http://www.ti.com/; ComponentLink2Description: Datasheet; ComponentLink2URL: http://www-s.ti.com/sc/ds/tms320c6711.pdf
footprint GFN256 (BGA, 256-Leads, Body 27x27mm, Pitch 1.27mm)
3D model TMS320C6211-GFN256 (256-Ball Ball Grid Array 1.27 mm Pitch)
part A pins: A3 CLKIN (in), A4 PLLV (power), A5 RSV2 (out), A6 TCK (in), A7 TDI (in), A8 TDO (hiz), A13 ~{RESET} (in), A15 HD13 (io), A16 HD11 (io), A18 HD7 (io), B5 PLLF, B6 ~{TRST} (in), B7 TMS (in), B9 EMU1 (io), B10 EMU3 (io), B12 EMU5 (io), B14 HD15 (io), B16 HD10 (io), B17 HD8 (io), B18 HD5 (io), C1 EXT_INT5 (in), C2 EXT_INT4 (in), C4 CLKMODE0 (in), C6 PLLG (power), C11 EMU4 (io), C12 RSV0 (out), C13 NMI (in), C14 HD14 (io), C15 HD12 (io), C16 HD9 (io), C17 HD6 (io), C19 HD4 (io), C20 HD3 (io), D2 EXT_INT6 (in), D3 RSV3 (out), D7 CLKOUT1 (out), D9 EMU0 (io), D10 EMU2 (io), D12 RSV1 (out), D18 HD2 (io), D20 HD1 (io), E1 CLKS1 (in), E3 EXT_INT7 (in), E18 ~{HAS} (in), E19 ~{HDS}1 (in), E20 HD0 (io), F1 TOUT1 (out), F2 TINP1 (in), F18 ~{HDS}2 (in), F20 ~{HCS} (in), G1 TOUT0 (out), G2 TINP0 (in), G3 CLKX0 (io), G18 HCNTL0 (in), G19 HCNTL1 (in), G20 HR/~{W} (in), H1 FSX0 (io), H2 DX0 (hiz), H3 CLKR0 (io), H19 ~{HRDY} (out), H20 HHWIL (in), J1 DR0 (in), J3 FSR0 (io), J17 ~{HOLD} (in), J18 ~{HOLDA} (hiz), J19 BUSREQ (hiz), J20 ~{HINT} (out), K3 CLKS0 (in), K18 ED0 (io), K19 ED1 (io), L1 FSX1 (io), L2 DX1 (hiz), L3 CLKX1 (io), L18 ED2 (io), L19 ED3 (io), M1 CLKR1 (io), M2 DR1 (in), M3 FSR1 (io), M19 ED4 (io), M20 ED5 (io), N2 RSV4 (out), N3 ED31 (io), N18 ED6 (io), N19 ED7 (io), N20 ED8 (io), P1 ED28 (io), P2 ED29 (io), P3 ED30 (io), P18 ED9 (io), P20 ED10 (io), R2 ED27 (io), R3 ED26 (io), R19 ED11 (io), R20 ED12 (io), T1 ED24 (io), T2 ED25 (io), T18 ED13 (io), T19 ED15 (io), T20 ED14 (io), U1 ED22 (io), U2 ED21 (io), U3 ED23 (io), U18 EA21 (hiz), U19 ~{BE}1 (hiz), V1 ED20 (io), V2 ED19 (io), V4 ED16 (io), V5 ~{BE}3 (hiz), V6 ~{CE}3 (hiz), V7 EA3 (hiz), V8 EA5 (hiz), V9 EA8 (hiz), V10 EA10 (hiz), V11 ~{ARE}/~{SDCAS}/~{SSADS} (hiz), V12 ~{AWE}/~{SDWE}/~{SSWE} (hiz), V14 EA12 (hiz), V16 EA17 (hiz), V17 ~{CE}0 (hiz), V20 ~{BE}0 (hiz), W4 ED17 (io), W6 ~{CE}2 (hiz), W7 EA4 (hiz), W8 EA6 (hiz), W10 ~{AOE}/~{SDRAS}/~{SSOE} (hiz), W13 EA11 (hiz), W14 EA13 (hiz), W15 EA15 (hiz), W17 EA19 (hiz), W18 ~{CE}1 (hiz), Y3 ED18 (io), Y4 ~{BE}2 (hiz), Y5 ARDY (in), Y6 EA2 (hiz), Y8 EA7 (hiz), Y9 EA9 (hiz), Y10 ECLKOUT (out), Y11 ECLKIN (in), Y12 CLKOUT2 (out), Y14 EA14 (hiz), Y15 EA16 (hiz), Y16 EA18 (hiz), Y18 EA20 (hiz), Y20 RSV5 (out)
part B pins: A1 VSS (power), A2 VSS (power), A9 CVDD (power), A10 CVDD (power), A11 VSS (power), A12 CVDD (power), A14 VSS (power), A17 DVDD (power), A19 VSS (power), A20 VSS (power), B1 VSS (power), B2 CVDD (power), B3 DVDD (power), B4 VSS (power), B8 DVDD (power), B11 VSS (power), B13 DVDD (power), B15 VSS (power), B19 CVDD (power), B20 VSS (power), C3 CVDD (power), C5 DVDD (power), C7 CVDD (power), C8 VSS (power), C9 VSS (power), C10 DVDD (power), C18 CVDD (power), D1 DVDD (power), D4 VSS (power), D5 CVDD (power), D6 CVDD (power), D8 VSS (power), D11 CVDD (power), D13 VSS (power), D14 CVDD (power), D15 CVDD (power), D16 DVDD (power), D17 VSS (power), D19 DVDD (power), E2 VSS (power), E4 VSS (power), E17 VSS (power), F3 DVDD (power), F4 CVDD (power), F17 CVDD (power), F19 VSS (power), G4 VSS (power), G17 VSS (power), H4 VSS (power), H17 VSS (power), H18 DVDD (power), J2 DVDD (power), J4 VSS (power), K1 CVDD (power), K2 VSS (power), K4 CVDD (power), K17 CVDD (power), K20 VSS (power), L4 CVDD (power), L17 CVDD (power), L20 CVDD (power), M4 VSS (power), M17 VSS (power), M18 DVDD (power), N1 DVDD (power), N4 VSS (power), N17 VSS (power), P4 VSS (power), P17 VSS (power), P19 VSS (power), R1 DVDD (power), R4 CVDD (power), R17 CVDD (power), R18 DVDD (power), T3 DVDD (power), T4 VSS (power), T17 VSS (power), U4 VSS (power), U5 DVDD (power), U6 CVDD (power), U7 DVDD (power), U8 VSS (power), U9 VSS (power), U10 CVDD (power), U11 CVDD (power), U12 DVDD (power), U13 VSS (power), U14 CVDD (power), U15 CVDD (power), U16 DVDD (power), U17 VSS (power), U20 VSS (power), V3 CVDD (power), V13 DVDD (power), V15 DVDD (power), V18 CVDD (power), V19 DVDD (power), W1 VSS (power), W2 CVDD (power), W3 DVDD (power), W5 VSS (power), W9 DVDD (power), W11 VSS (power), W12 DVDD (power), W16 VSS (power), W19 CVDD (power), W20 VSS (power), Y1 VSS (power), Y2 VSS (power), Y7 DVDD (power), Y13 VSS (power), Y17 DVDD (power), Y19 VSS (power)

## TMS320C6701GJC150
designator U?
Floating-Point, 1.8/3.3V, 1 GFLOPS,Multi-Function/Multi-Channel DSP; Note: PLLV and PLLG are not part of external voltage supply or ground.; Published: 25-Jan-2001; LatestRevisionDate: 13-Apr-2006; LatestRevisionNote: IPC-7351 Footprint Added.; DatasheetVersion: May-2000; PackageVersion: Jul-1999; PackageReference: GJC352; Publisher: Altium Limited; PackageDescription: 352-Ball Ball Grid Array 1.27 mm Pitch; ComponentLink1Description: Manufacturer Link; ComponentLink1URL: http://www.ti.com/; ComponentLink2Description: Datasheet; ComponentLink2URL: http://www-s.ti.com/sc/ds/tms320c6701.pdf
footprint GJC352 (BGA, 352-Leads, Body 35x35mm, Pitch 1.27mm)
3D model TMS320C6701-GJC352 (352-Ball Ball Grid Array 1.27 mm Pitch)
part A pins: A3 BOOTMODE2 (in), A6 RSV4 (in), A7 ~{HOLDA} (out), A8 NC, A9 PLLFREQ3 (in), A11 PLLF, A17 HD9 (io), A19 HD5 (io), A23 RSV8 (in), A24 ~{HDS}2 (in), AA1 INUM3 (out), AA2 INUM1 (out), AA4 ED29 (io), AA24 ~{BE}2 (hiz), AA25 ~{HOLD} (in), AA26 ~{BE}0 (hiz), AB1 INUM0 (out), AB2 ED31 (io), AB24 ~{CE}1 (hiz), AB25 ~{BE}3 (hiz), AC1 ED30 (io), AC3 ED27 (io), AC8 ED17 (io), AC11 ED12 (io), AC15 ED4 (io), AC17 ED0 (io), AC20 ~{SSADS} (hiz), AC24 ~{AOE} (hiz), AC26 ~{CE}0 (hiz), AD1 ED28 (io), AD4 ED26 (io), AD5 ED23 (io), AD6 ED20 (io), AD7 ED18 (io), AD9 ED15 (io), AD10 ED14 (io), AD17 SSCLK (out), AD19 ~{SSWE} (hiz), AD21 SDA10 (hiz), AD22 ~{SDCAS} (hiz), AD23 ~{AWE} (hiz), AD26 ~{CE}2 (hiz), AE4 ED24 (io), AE5 ED21 (io), AE6 ED19 (io), AE10 ED11 (io), AE11 ED10 (io), AE14 ED8 (io), AE15 ED6 (io), AE17 ED3 (io), AE20 SDCLK (out), AE22 ~{CE}3 (hiz), AF3 ED25 (io), AF4 ED22 (io), AF7 ED16 (io), AF9 ED13 (io), AF11 ED9 (io), AF15 ED7 (io), AF16 ED5 (io), AF18 ED2 (io), AF19 ED1 (io), AF20 CLKOUT2 (out), AF21 ~{SSOE} (hiz), AF22 CLKOUT1 (out), AF23 ~{SDWE} (hiz), AF24 ~{SDRAS} (hiz), B4 BOOTMODE3 (in), B8 NC, B9 RSV3 (in), B10 PLLFREQ1 (in), B13 HD15 (io), B14 HD14 (io), B15 HD12 (io), B16 HD10 (io), B17 HD8 (io), B18 HD6 (io), B19 HD3 (io), B20 HD1 (io), B21 HD0 (io), B22 RSV7 (in), B23 ~{HCS} (in), C4 BOOTMODE0 (in), C5 CLKMODE0 (in), C6 CLKMODE1 (in), C8 RSV5 (out), C9 NC, C10 CLKIN (in), C11 RSV2 (in), C12 PLLG (power) hidden to PLLG, C14 HD13 (io), C18 HD4 (io), C19 HD2 (io), C21 RSV6 (in), C22 ~{HAS} (in), C23 HR/~{W} (in), C26 HHWIL (in), D1 DMAC1 (out), D2 DMAC3 (out), D3 PD (out), D5 BOOTMODE1 (in), D8 BOOTMODE4 (in), D10 NC, D11 PLLFREQ2 (in), D12 PLLV (power) hidden to PLLV, D15 HD11 (io), D16 HD7 (io), D21 NC, D22 ~{HDS}1 (in), D24 ~{HBE}0 (in), D25 HCNTL0 (in), D26 DR1 (in), E2 DMAC0 (out), E4 RSV9 (out), E23 ~{HBE}1 (in), E25 CLKS1 (in), E26 FSR1 (io), F4 DMAC2 (out), F23 HCNTL1 (in), F25 FSX1 (io), F26 CLKX1 (io), G1 NC, G2 RSV1 (in), G23 DX1 (hiz), H1 NC, H2 NC, H3 LENDIAN (in), H23 CLKR1 (io), H24 TOUT1 (out), H26 ~{HINT} (out), J1 DR0 (in), J2 NC, J24 ~{HRDY} (out), J26 EA21 (hiz), K2 ~{RESET} (in), K3 NC, K4 TINP0 (in), K24 TINP1 (in), K25 EA20 (hiz), K26 EA18 (hiz), L1 CLKX0 (io), L2 NMI (in), L3 TMS (in), L4 CLKS0 (in), L24 EA19 (hiz), M2 CLKR0 (io), M4 TOUT0 (out), M25 EA16 (hiz), M26 EA17 (hiz), P3 FSX0 (io), P4 FSR0 (io), P24 EA14 (hiz), P25 EA15 (hiz), R1 DX0 (hiz), R2 NC, R3 TCK (in), R4 TDI (in), R23 EA11 (hiz), R25 EA13 (hiz), T1 ~{TRST} (in), T2 RSV0 (in), T23 EA8 (hiz), T26 EA12 (hiz), U3 EXT_INT7 (in), U4 EXT_INT4 (in), U25 EA9 (hiz), U26 EA10 (hiz), V2 EXT_INT6 (in), V24 EA4 (hiz), V25 EA6 (hiz), V26 EA7 (hiz), W1 EXT_INT5 (in), W2 TDO (hiz), W3 EMU0 (io), W4 INUM2 (out), W23 ARDY (in), W25 EA3 (hiz), W26 EA5 (hiz), Y1 EMU1 (io), Y2 IACK (out), Y23 ~{BE}1 (hiz), Y24 ~{ARE} (hiz), Y26 EA2 (hiz)
part B pins: A1 VSS (power), A2 VSS (power), A4 VSS (power), A5 CVDD (power), A10 DVDD (power), A12 CVDD (power), A13 VSS (power), A14 VSS (power), A15 DVDD (power), A16 CVDD (power), A18 DVDD (power), A20 CVDD (power), A21 DVDD (power), A22 DVDD (power), A25 VSS (power), A26 VSS (power), AA3 VSS (power), AA23 VSS (power), AB3 DVDD (power), AB4 DVDD (power), AB23 VSS (power), AB26 DVDD (power), AC2 VSS (power), AC4 CVDD (power), AC5 VSS (power), AC6 DVDD (power), AC7 VSS (power), AC9 CVDD (power), AC10 DVDD (power), AC12 CVDD (power), AC13 CVDD (power), AC14 VSS (power), AC16 VSS (power), AC18 CVDD (power), AC19 DVDD (power), AC21 DVDD (power), AC22 DVDD (power), AC23 CVDD (power), AC25 DVDD (power), AD2 VSS (power), AD3 CVDD (power), AD8 CVDD (power), AD11 DVDD (power), AD12 VSS (power), AD13 DVDD (power), AD14 CVDD (power), AD15 DVDD (power), AD16 VSS (power), AD18 DVDD (power), AD20 VSS (power), AD24 CVDD (power), AD25 VSS (power), AE1 VSS (power), AE2 CVDD (power), AE3 VSS (power), AE7 VSS (power), AE8 CVDD (power), AE9 VSS (power), AE12 CVDD (power), AE13 VSS (power), AE16 VSS (power), AE18 DVDD (power), AE19 VSS (power), AE21 DVDD (power), AE23 VSS (power), AE24 VSS (power), AE25 CVDD (power), AE26 VSS (power), AF1 VSS (power), AF2 VSS (power), AF5 DVDD (power), AF6 DVDD (power), AF8 VSS (power), AF10 VSS (power), AF12 CVDD (power), AF13 VSS (power), AF14 VSS (power), AF17 DVDD (power), AF25 VSS (power), AF26 VSS (power), B1 VSS (power), B2 CVDD (power), B3 VSS (power), B5 VSS (power), B6 CVDD (power), B7 DVDD (power), B11 CVDD (power), B12 CVDD (power), B24 VSS (power), B25 CVDD (power), B26 VSS (power), C1 DVDD (power), C2 VSS (power), C3 CVDD (power), C7 VSS (power), C13 VSS (power), C15 CVDD (power), C16 VSS (power), C17 VSS (power), C20 CVDD (power), C24 CVDD (power), C25 VSS (power), D4 CVDD (power), D6 CVDD (power), D7 CVDD (power), D9 CVDD (power), D13 VSS (power), D14 CVDD (power), D17 DVDD (power), D18 CVDD (power), D19 VSS (power), D20 CVDD (power), D23 CVDD (power), E1 CVDD (power), E3 VSS (power), E24 VSS (power), F1 CVDD (power), F2 VSS (power), F3 DVDD (power), F24 VSS (power), G3 VSS (power), G4 VSS (power), G24 DVDD (power), G25 DVDD (power), G26 VSS (power), H4 CVDD (power), H25 DVDD (power), J3 VSS (power), J4 CVDD (power), J23 CVDD (power), J25 DVDD (power), K1 CVDD (power), K23 CVDD (power), L23 VSS (power), L25 DVDD (power), L26 VSS (power), M1 CVDD (power), M3 DVDD (power), M23 VSS (power), M24 CVDD (power), N1 VSS (power), N2 VSS (power), N3 DVDD (power), N4 CVDD (power), N23 DVDD (power), N24 VSS (power), N25 CVDD (power), N26 VSS (power), P1 VSS (power), P2 CVDD (power), P23 CVDD (power), P26 VSS (power), R24 VSS (power), R26 DVDD (power), T3 CVDD (power), T4 CVDD (power), T24 DVDD (power), T25 VSS (power), U1 CVDD (power), U2 VSS (power), U23 VSS (power), U24 DVDD (power), V1 VSS (power), V3 VSS (power), V4 CVDD (power), V23 CVDD (power), W24 DVDD (power), Y3 VSS (power), Y4 DVDD (power), Y25 VSS (power)

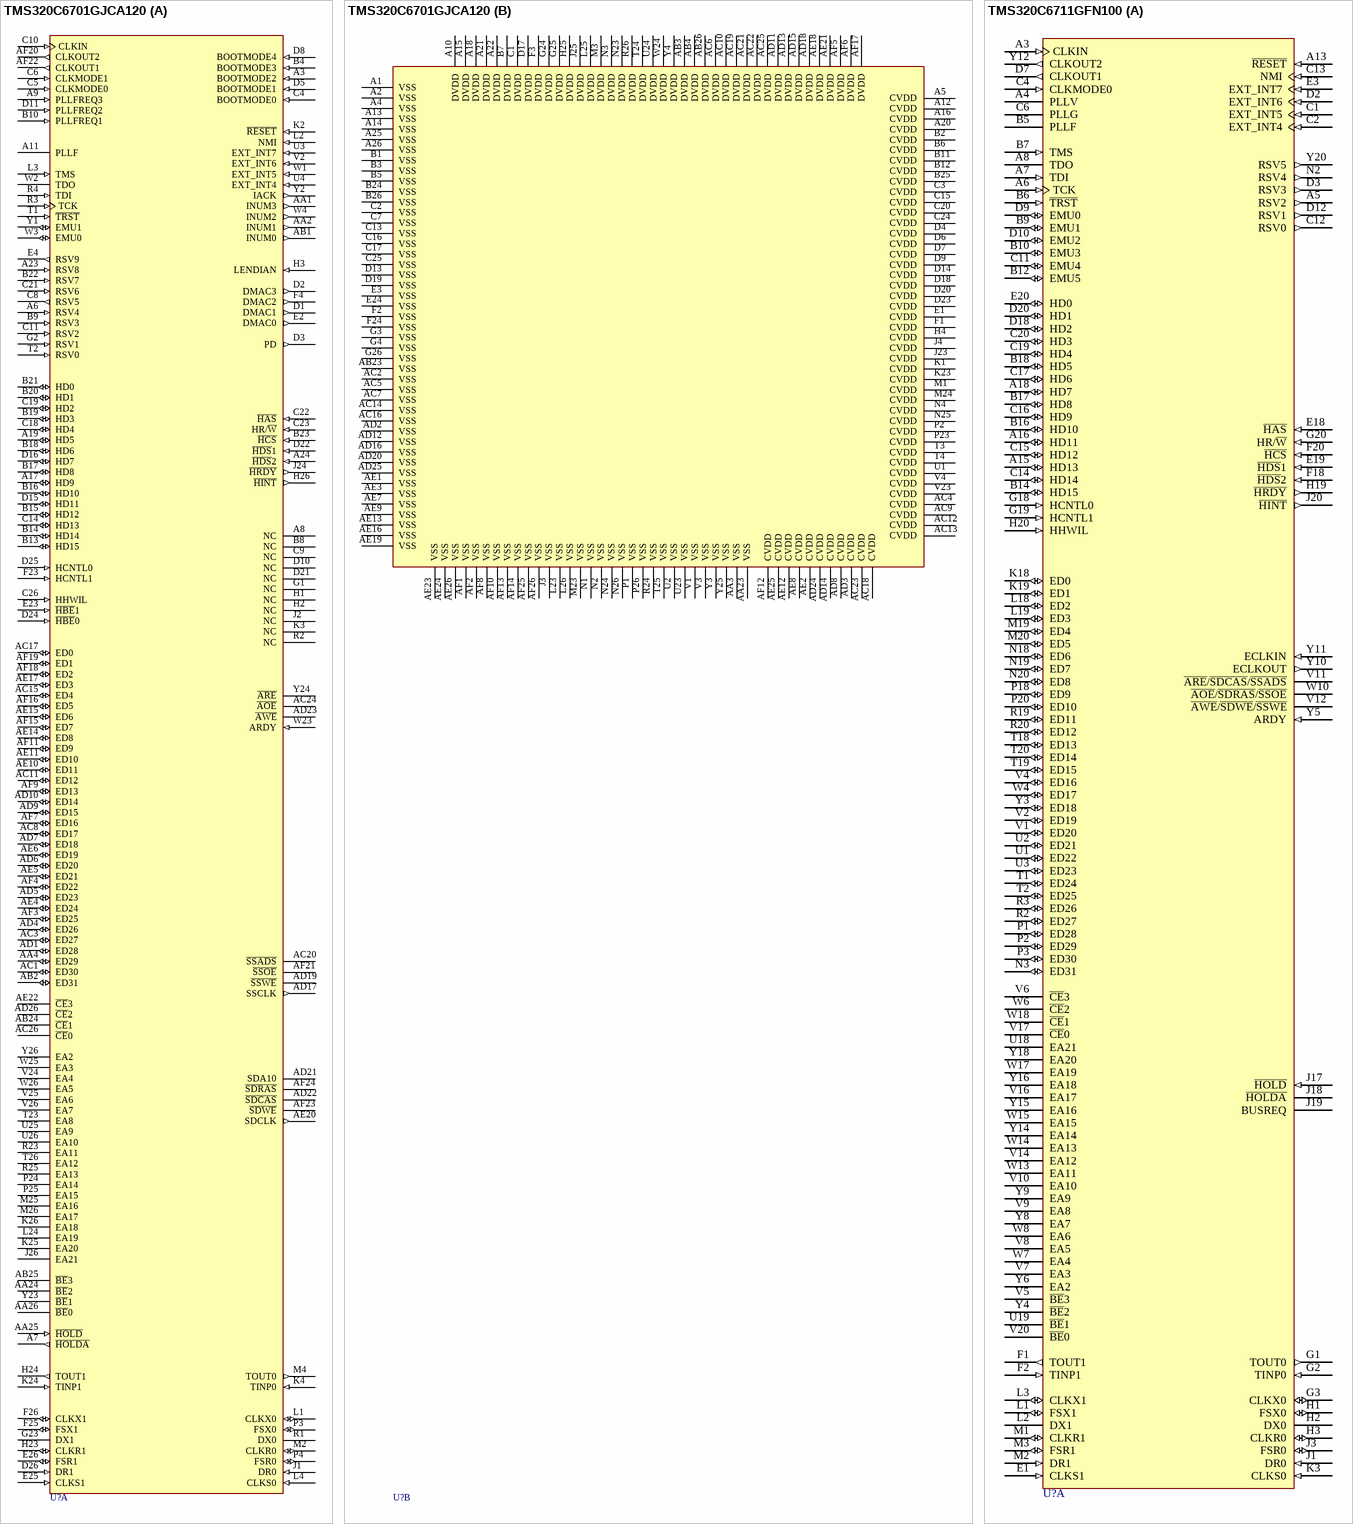
[diagram p119: symbols TMS320C6701GJCA120 to TMS320C6711GFN100]

## TMS320C6701GJCA120
designator U?
Floating-Point, 1.8/3.3V, 1 GFLOPS,Multi-Function/Multi-Channel DSP; Note: PLLV and PLLG are not part of external voltage supply or ground.; Published: 25-Jan-2001; LatestRevisionDate: 13-Apr-2006; LatestRevisionNote: IPC-7351 Footprint Added.; DatasheetVersion: May-2000; PackageVersion: Jul-1999; PackageReference: GJC352; Publisher: Altium Limited; PackageDescription: 352-Ball Ball Grid Array 1.27 mm Pitch; ComponentLink1Description: Manufacturer Link; ComponentLink1URL: http://www.ti.com/; ComponentLink2Description: Datasheet; ComponentLink2URL: http://www-s.ti.com/sc/ds/tms320c6701.pdf
footprint GJC352 (BGA, 352-Leads, Body 35x35mm, Pitch 1.27mm)
3D model TMS320C6701-GJC352 (352-Ball Ball Grid Array 1.27 mm Pitch)
part A pins: A3 BOOTMODE2 (in), A6 RSV4 (in), A7 ~{HOLDA} (out), A8 NC, A9 PLLFREQ3 (in), A11 PLLF, A17 HD9 (io), A19 HD5 (io), A23 RSV8 (in), A24 ~{HDS}2 (in), AA1 INUM3 (out), AA2 INUM1 (out), AA4 ED29 (io), AA24 ~{BE}2 (hiz), AA25 ~{HOLD} (in), AA26 ~{BE}0 (hiz), AB1 INUM0 (out), AB2 ED31 (io), AB24 ~{CE}1 (hiz), AB25 ~{BE}3 (hiz), AC1 ED30 (io), AC3 ED27 (io), AC8 ED17 (io), AC11 ED12 (io), AC15 ED4 (io), AC17 ED0 (io), AC20 ~{SSADS} (hiz), AC24 ~{AOE} (hiz), AC26 ~{CE}0 (hiz), AD1 ED28 (io), AD4 ED26 (io), AD5 ED23 (io), AD6 ED20 (io), AD7 ED18 (io), AD9 ED15 (io), AD10 ED14 (io), AD17 SSCLK (out), AD19 ~{SSWE} (hiz), AD21 SDA10 (hiz), AD22 ~{SDCAS} (hiz), AD23 ~{AWE} (hiz), AD26 ~{CE}2 (hiz), AE4 ED24 (io), AE5 ED21 (io), AE6 ED19 (io), AE10 ED11 (io), AE11 ED10 (io), AE14 ED8 (io), AE15 ED6 (io), AE17 ED3 (io), AE20 SDCLK (out), AE22 ~{CE}3 (hiz), AF3 ED25 (io), AF4 ED22 (io), AF7 ED16 (io), AF9 ED13 (io), AF11 ED9 (io), AF15 ED7 (io), AF16 ED5 (io), AF18 ED2 (io), AF19 ED1 (io), AF20 CLKOUT2 (out), AF21 ~{SSOE} (hiz), AF22 CLKOUT1 (out), AF23 ~{SDWE} (hiz), AF24 ~{SDRAS} (hiz), B4 BOOTMODE3 (in), B8 NC, B9 RSV3 (in), B10 PLLFREQ1 (in), B13 HD15 (io), B14 HD14 (io), B15 HD12 (io), B16 HD10 (io), B17 HD8 (io), B18 HD6 (io), B19 HD3 (io), B20 HD1 (io), B21 HD0 (io), B22 RSV7 (in), B23 ~{HCS} (in), C4 BOOTMODE0 (in), C5 CLKMODE0 (in), C6 CLKMODE1 (in), C8 RSV5 (out), C9 NC, C10 CLKIN (in), C11 RSV2 (in), C12 PLLG (power) hidden to PLLG, C14 HD13 (io), C18 HD4 (io), C19 HD2 (io), C21 RSV6 (in), C22 ~{HAS} (in), C23 HR/~{W} (in), C26 HHWIL (in), D1 DMAC1 (out), D2 DMAC3 (out), D3 PD (out), D5 BOOTMODE1 (in), D8 BOOTMODE4 (in), D10 NC, D11 PLLFREQ2 (in), D12 PLLV (power) hidden to PLLV, D15 HD11 (io), D16 HD7 (io), D21 NC, D22 ~{HDS}1 (in), D24 ~{HBE}0 (in), D25 HCNTL0 (in), D26 DR1 (in), E2 DMAC0 (out), E4 RSV9 (out), E23 ~{HBE}1 (in), E25 CLKS1 (in), E26 FSR1 (io), F4 DMAC2 (out), F23 HCNTL1 (in), F25 FSX1 (io), F26 CLKX1 (io), G1 NC, G2 RSV1 (in), G23 DX1 (hiz), H1 NC, H2 NC, H3 LENDIAN (in), H23 CLKR1 (io), H24 TOUT1 (out), H26 ~{HINT} (out), J1 DR0 (in), J2 NC, J24 ~{HRDY} (out), J26 EA21 (hiz), K2 ~{RESET} (in), K3 NC, K4 TINP0 (in), K24 TINP1 (in), K25 EA20 (hiz), K26 EA18 (hiz), L1 CLKX0 (io), L2 NMI (in), L3 TMS (in), L4 CLKS0 (in), L24 EA19 (hiz), M2 CLKR0 (io), M4 TOUT0 (out), M25 EA16 (hiz), M26 EA17 (hiz), P3 FSX0 (io), P4 FSR0 (io), P24 EA14 (hiz), P25 EA15 (hiz), R1 DX0 (hiz), R2 NC, R3 TCK (in), R4 TDI (in), R23 EA11 (hiz), R25 EA13 (hiz), T1 ~{TRST} (in), T2 RSV0 (in), T23 EA8 (hiz), T26 EA12 (hiz), U3 EXT_INT7 (in), U4 EXT_INT4 (in), U25 EA9 (hiz), U26 EA10 (hiz), V2 EXT_INT6 (in), V24 EA4 (hiz), V25 EA6 (hiz), V26 EA7 (hiz), W1 EXT_INT5 (in), W2 TDO (hiz), W3 EMU0 (io), W4 INUM2 (out), W23 ARDY (in), W25 EA3 (hiz), W26 EA5 (hiz), Y1 EMU1 (io), Y2 IACK (out), Y23 ~{BE}1 (hiz), Y24 ~{ARE} (hiz), Y26 EA2 (hiz)
part B pins: A1 VSS (power), A2 VSS (power), A4 VSS (power), A5 CVDD (power), A10 DVDD (power), A12 CVDD (power), A13 VSS (power), A14 VSS (power), A15 DVDD (power), A16 CVDD (power), A18 DVDD (power), A20 CVDD (power), A21 DVDD (power), A22 DVDD (power), A25 VSS (power), A26 VSS (power), AA3 VSS (power), AA23 VSS (power), AB3 DVDD (power), AB4 DVDD (power), AB23 VSS (power), AB26 DVDD (power), AC2 VSS (power), AC4 CVDD (power), AC5 VSS (power), AC6 DVDD (power), AC7 VSS (power), AC9 CVDD (power), AC10 DVDD (power), AC12 CVDD (power), AC13 CVDD (power), AC14 VSS (power), AC16 VSS (power), AC18 CVDD (power), AC19 DVDD (power), AC21 DVDD (power), AC22 DVDD (power), AC23 CVDD (power), AC25 DVDD (power), AD2 VSS (power), AD3 CVDD (power), AD8 CVDD (power), AD11 DVDD (power), AD12 VSS (power), AD13 DVDD (power), AD14 CVDD (power), AD15 DVDD (power), AD16 VSS (power), AD18 DVDD (power), AD20 VSS (power), AD24 CVDD (power), AD25 VSS (power), AE1 VSS (power), AE2 CVDD (power), AE3 VSS (power), AE7 VSS (power), AE8 CVDD (power), AE9 VSS (power), AE12 CVDD (power), AE13 VSS (power), AE16 VSS (power), AE18 DVDD (power), AE19 VSS (power), AE21 DVDD (power), AE23 VSS (power), AE24 VSS (power), AE25 CVDD (power), AE26 VSS (power), AF1 VSS (power), AF2 VSS (power), AF5 DVDD (power), AF6 DVDD (power), AF8 VSS (power), AF10 VSS (power), AF12 CVDD (power), AF13 VSS (power), AF14 VSS (power), AF17 DVDD (power), AF25 VSS (power), AF26 VSS (power), B1 VSS (power), B2 CVDD (power), B3 VSS (power), B5 VSS (power), B6 CVDD (power), B7 DVDD (power), B11 CVDD (power), B12 CVDD (power), B24 VSS (power), B25 CVDD (power), B26 VSS (power), C1 DVDD (power), C2 VSS (power), C3 CVDD (power), C7 VSS (power), C13 VSS (power), C15 CVDD (power), C16 VSS (power), C17 VSS (power), C20 CVDD (power), C24 CVDD (power), C25 VSS (power), D4 CVDD (power), D6 CVDD (power), D7 CVDD (power), D9 CVDD (power), D13 VSS (power), D14 CVDD (power), D17 DVDD (power), D18 CVDD (power), D19 VSS (power), D20 CVDD (power), D23 CVDD (power), E1 CVDD (power), E3 VSS (power), E24 VSS (power), F1 CVDD (power), F2 VSS (power), F3 DVDD (power), F24 VSS (power), G3 VSS (power), G4 VSS (power), G24 DVDD (power), G25 DVDD (power), G26 VSS (power), H4 CVDD (power), H25 DVDD (power), J3 VSS (power), J4 CVDD (power), J23 CVDD (power), J25 DVDD (power), K1 CVDD (power), K23 CVDD (power), L23 VSS (power), L25 DVDD (power), L26 VSS (power), M1 CVDD (power), M3 DVDD (power), M23 VSS (power), M24 CVDD (power), N1 VSS (power), N2 VSS (power), N3 DVDD (power), N4 CVDD (power), N23 DVDD (power), N24 VSS (power), N25 CVDD (power), N26 VSS (power), P1 VSS (power), P2 CVDD (power), P23 CVDD (power), P26 VSS (power), R24 VSS (power), R26 DVDD (power), T3 CVDD (power), T4 CVDD (power), T24 DVDD (power), T25 VSS (power), U1 CVDD (power), U2 VSS (power), U23 VSS (power), U24 DVDD (power), V1 VSS (power), V3 VSS (power), V4 CVDD (power), V23 CVDD (power), W24 DVDD (power), Y3 VSS (power), Y4 DVDD (power), Y25 VSS (power)

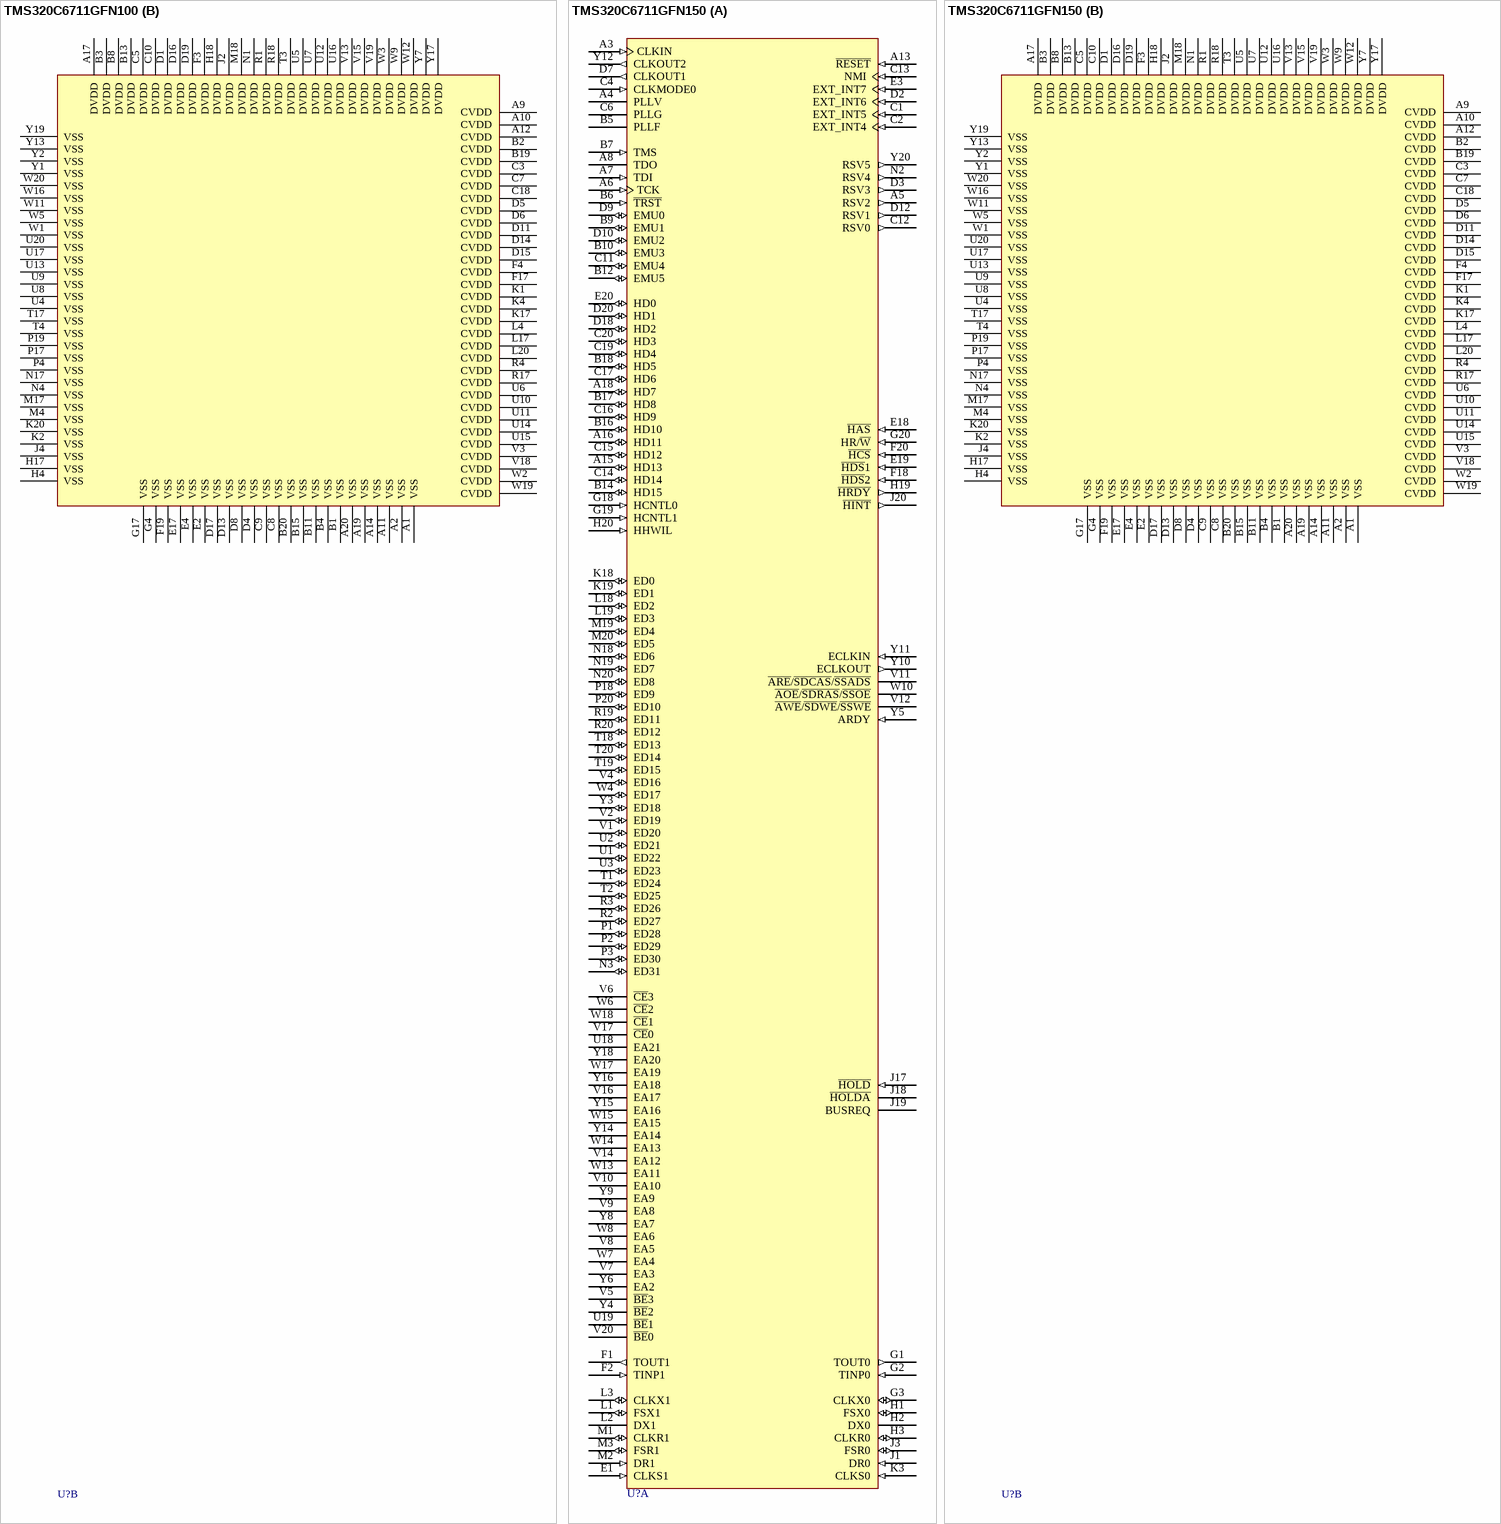
[diagram p120: symbols TMS320C6711GFN100 to TMS320C6711GFN150]